# Altium schematic symbol library Integrated circuits.SchLib: 329 symbols (part 3 of 5)
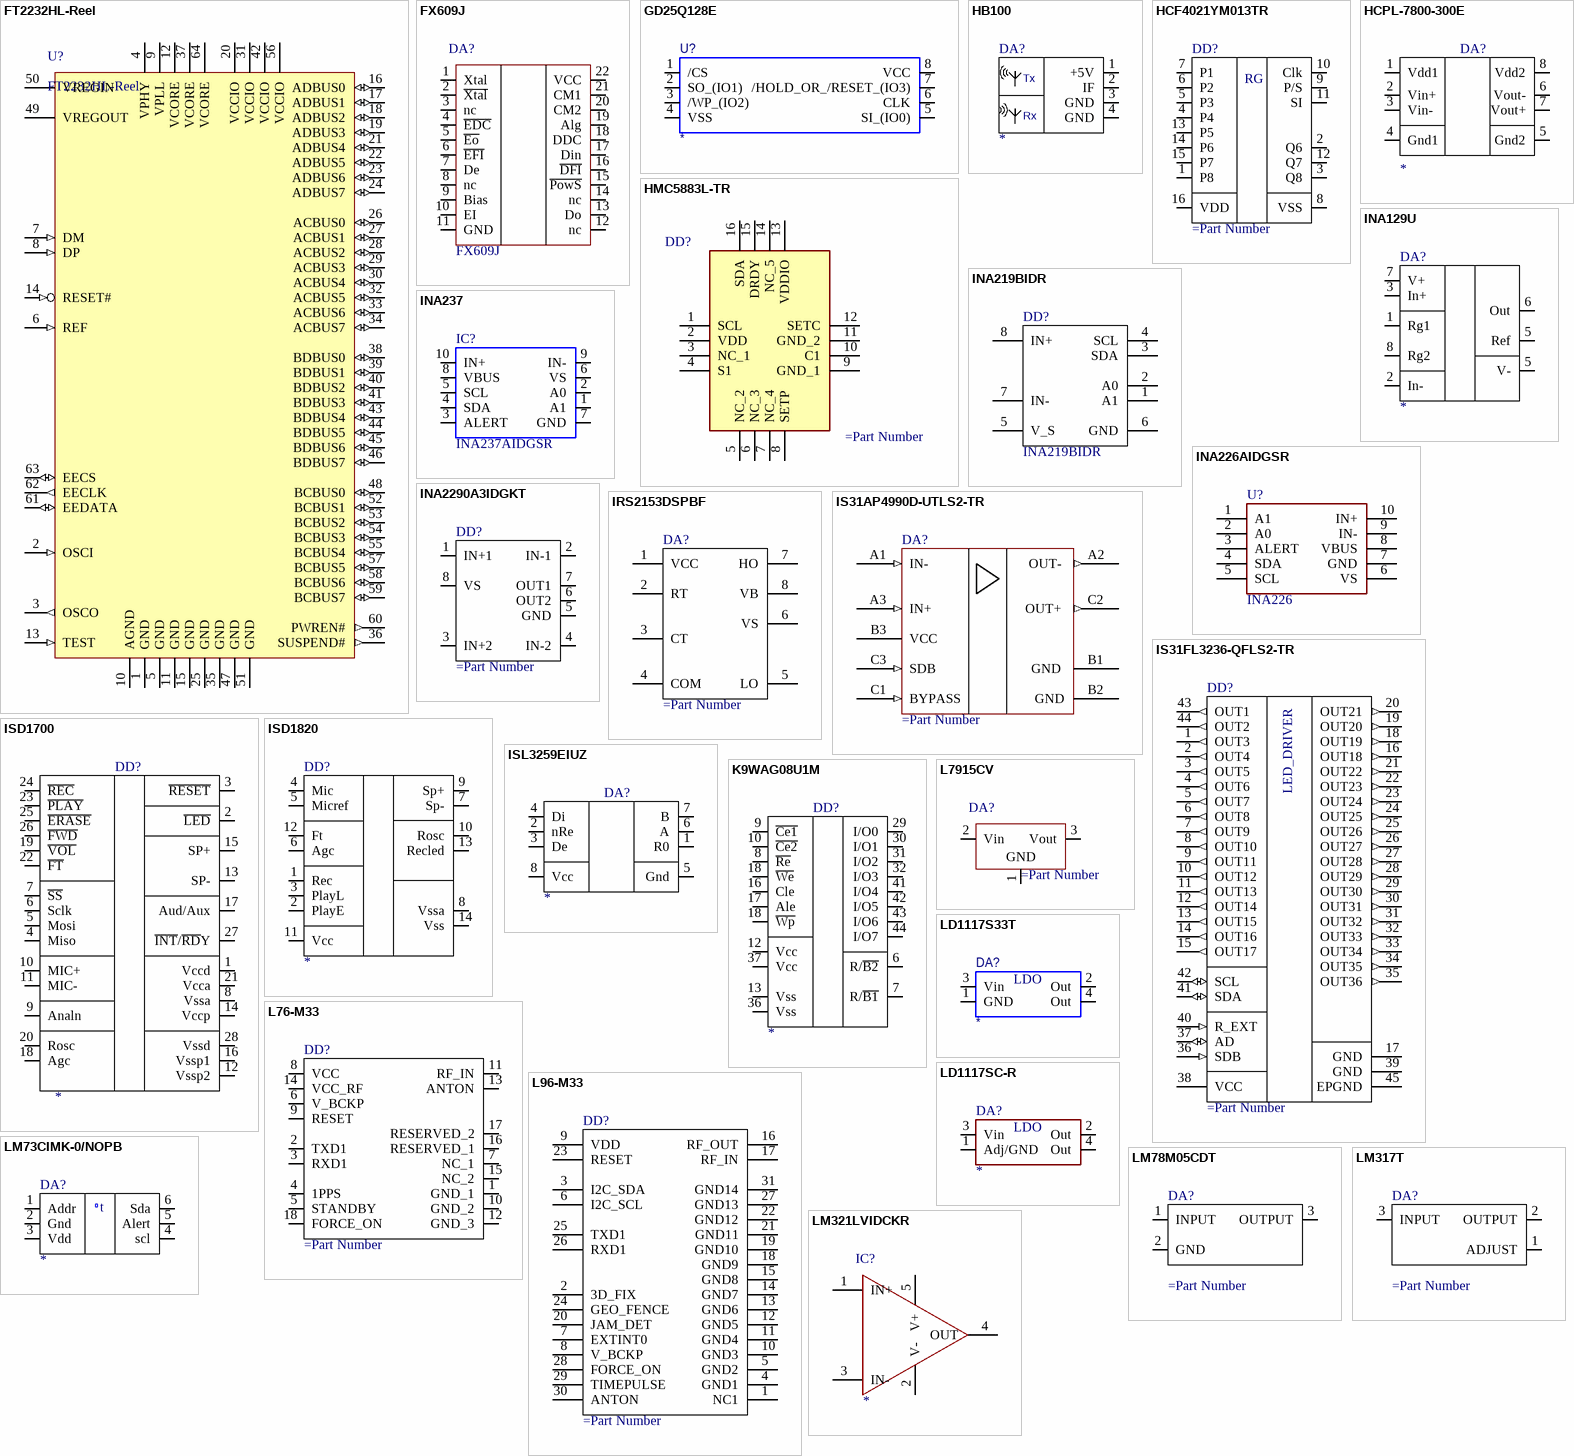
[diagram p27: symbols FT2232HL-Reel to LM321LVIDCKR]

## L76-M33
designator DD?
Integrated Circuit; Manufacturer_Name: Quectel; Manufacturer_Part_Number: L76-M33; Datasheet Link: https://datasheet.datasheetarchive.com/originals/distributors/Datasheets_SAMA/41812d7b1c816a6d8978e3ae1e22c1bf.pdf; Mouser Part Number: 277-L76-M33; Mouser Price/Stock: https://www.mouser.co.uk/ProductDetail/Quectel/L76-M33?qs=GedFDFLaBXE%2FO6lmQFkONA%3D%3D; Arrow Part Number: L76-M33; Arrow Price/Stock: https://www.arrow.com/en/products/l76-m33/quectel-wireless-solutions-co-ltd?region=nac
footprint L76
pins: 1 GND_1, 2 TXD1, 3 RXD1, 4 1PPS, 5 STANDBY, 6 V_BCKP, 7 NC_1, 8 VCC, 9 RESET, 10 GND_2, 11 RF_IN, 12 GND_3, 13 ANTON, 14 VCC_RF, 15 NC_2, 16 RESERVED_1, 17 RESERVED_2, 18 FORCE_ON

## L96-M33
designator DD?
Integrated Circuit; Manufacturer_Name: Quectel; Manufacturer_Part_Number: L96-M33; Datasheet Link: https://datasheet.datasheetarchive.com/originals/distributors/Datasheets_SAMA/c0ed967e056339dc6605afdc999e8ece.pdf; Mouser Part Number: 277-L96-M33; Mouser Price/Stock: https://www.mouser.co.uk/ProductDetail/Quectel/L96-M33?qs=GedFDFLaBXHZlDfU1tecmQ%3D%3D; Arrow Part Number: L96-M33; Arrow Price/Stock: https://www.arrow.com/en/products/l96-m33/quectel-wireless-solutions-co-ltd?region=nac
footprint L96
pins: 1 NC1, 2 3D_FIX, 3 I2C_SDA, 4 GND1, 5 GND2, 6 I2C_SCL, 7 EXTINT0, 8 V_BCKP, 9 VDD, 10 GND3, 11 GND4, 12 GND5, 13 GND6, 14 GND7, 15 GND8, 16 RF_OUT, 17 RF_IN, 18 GND9, 19 GND10, 20 JAM_DET, 21 GND11, 22 GND12, 23 RESET, 24 GEO_FENCE, 25 TXD1, 26 RXD1, 27 GND13, 28 FORCE_ON, 29 TIMEPULSE, 30 ANTON, 31 GND14

## L7915CV
designator DA?
pins: 1 GND, 2 Vin, 3 Vout

## LD1117S33T
designator DA?
pins: 1 GND, 2 Out, 3 Vin, 4 Out
text: LDO

## LD1117SC-R
designator DA?
pins: 1 Adj/GND, 2 Out, 3 Vin, 4 Out
text: LDO

## LM73CIMK-0/NOPB
designator DA?
pins: 1 Addr, 2 Gnd, 3 Vdd, 4 scl, 5 Alert, 6 Sda
text: t

## LM78M05CDT
designator DA?
pins: 1 INPUT, 2 GND, 3 OUTPUT

## LM317T
designator DA?
pins: 1 ADJUST, 2 OUTPUT, 3 INPUT

## LM321LVIDCKR
designator IC?
Integrated Circuit; Manufacturer_Name: Texas Instruments; Manufacturer_Part_Number: TL071HIDBVR; Datasheet Link: https://www.ti.com/lit/ds/symlink/tl071h.pdf?ts=1631522494957; Height: 1.45mm; Mouser Part Number: 595-TL071HIDBVR; Mouser Price/Stock: https://www.mouser.co.uk/ProductDetail/Texas-Instruments/TL071HIDBVR?qs=pBJMDPsKWf2LWnCCHbBi7g%3D%3D; Arrow Part Number: TL071HIDBVR; Arrow Price/Stock: https://www.arrow.com/en/products/tl071hidbvr/texas-instruments?region=europe
footprint SOT95P280X145-5N
pins: 1 IN+, 2 V-, 3 IN-, 4 OUT, 5 V+

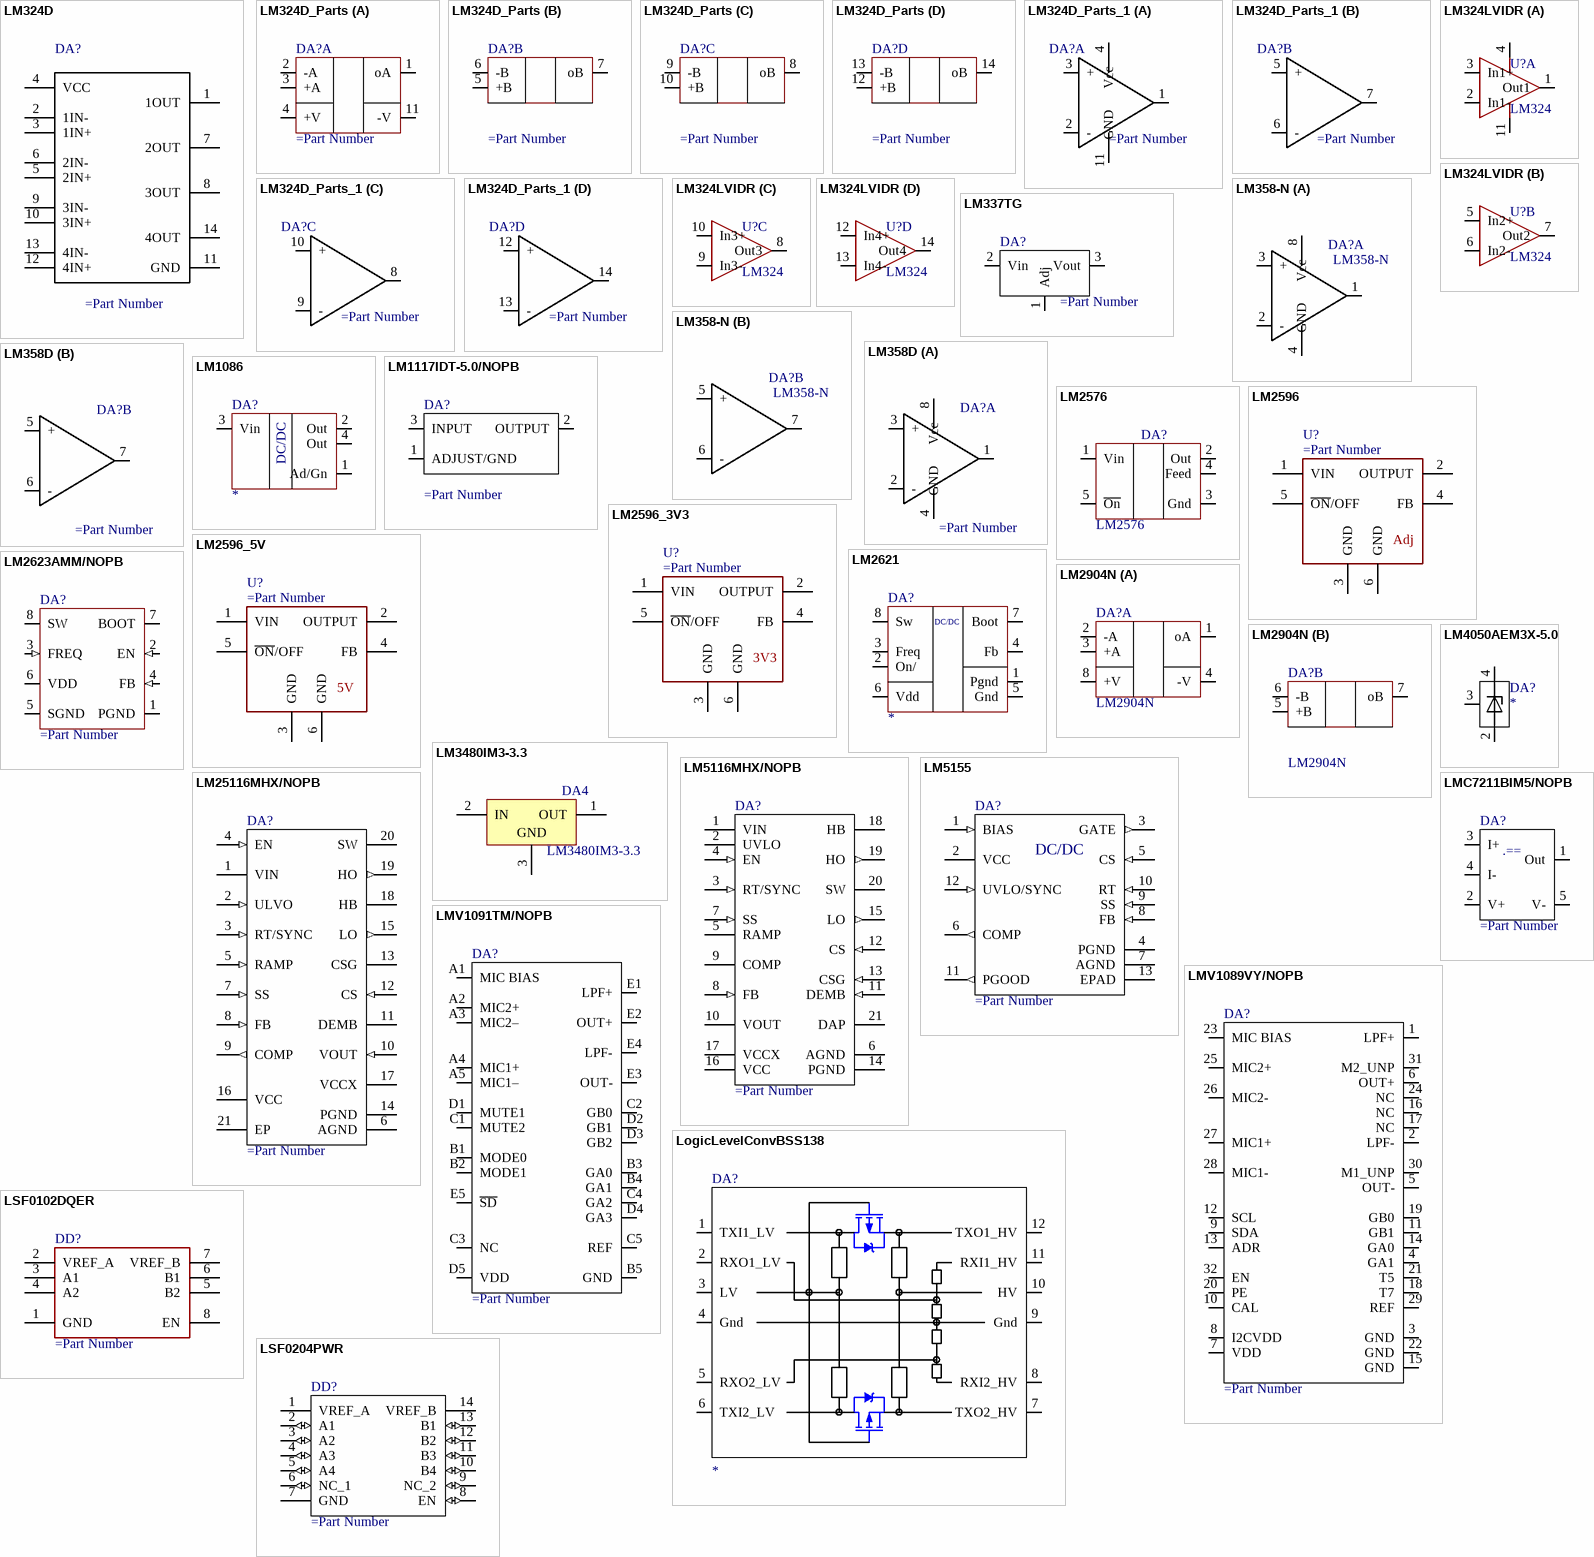
[diagram p13: symbols LM324D to LSF0204PWR]

## LM324D
designator DA?
pins: 1 1OUT, 2 1IN-, 3 1IN+, 4 VCC, 5 2IN+, 6 2IN-, 7 2OUT, 8 3OUT, 9 3IN-, 10 3IN+, 11 GND, 12 4IN+, 13 4IN-, 14 4OUT

## LM324D_Parts
designator DA?
General Purpose Amplifier 4 Circuit - 14-SO
part A pins: 1 oA, 2 -A, 3 +A, 4 +V, 11 -V
part B pins: 5 +B, 6 -B, 7 oB
part C pins: 8 oB, 9 -B, 10 +B
part D pins: 12 +B, 13 -B, 14 oB

## LM324D_Parts_1
designator DA?
General Purpose Amplifier 4 Circuit - 14-SO
part A pins: 1, 2 -, 3 +, 4 Vcc, 11 GND
part B pins: 5 +, 6 -, 7
part C pins: 8, 9 -, 10 +
part D pins: 12 +, 13 -, 14

## LM324LVIDR
designator U?, comment LM324
part A pins: 1 Out1, 2 In1-, 3 In1+, 4 V+, 11 V-
part B pins: 5 In2+, 6 In2-, 7 Out2
part C pins: 8 Out3, 9 In3-, 10 In3+
part D pins: 12 In4+, 13 In4-, 14 Out4

## LM337TG
designator DA?
pins: 1 Adj, 2 Vin, 3 Vout

## LM358-N
designator DA?
Low Power Dual Operational Amplifiers
part A pins: 1, 2 -, 3 +, 4 GND, 8 Vcc
part B pins: 5 +, 6 -, 7

## LM358D
designator DA?
Low Power Dual Operational Amplifiers
part A pins: 1, 2 -, 3 +, 4 GND, 8 Vcc
part B pins: 5 +, 6 -, 7

## LM1086
designator DA?
1.5-A Low Dropout Positive Regulators
pins: 1 Ad/Gn, 2 Out, 3 Vin, 4 Out
text: DC/DC

## LM1117IDT-5.0/NOPB
designator DA?
pins: 1 ADJUST/GND, 2 OUTPUT, 3 INPUT

## LM2576
designator DA?
pins: 1 Vin, 2 Out, 3 Gnd, 4 Feed, 5 ~{On}

## LM2596
designator U?
pins: 1 VIN, 2 OUTPUT, 3 GND, 4 FB, 5 ~{ON}/OFF, 6 GND
text: Adj

## LM2596_3V3
designator U?
pins: 1 VIN, 2 OUTPUT, 3 GND, 4 FB, 5 ~{ON}/OFF, 6 GND
text: 3V3

## LM2596_5V
designator U?
pins: 1 VIN, 2 OUTPUT, 3 GND, 4 FB, 5 ~{ON}/OFF, 6 GND
text: 5V

## LM2621
designator DA?
pins: 1 Pgnd, 2 On/, 3 Freq, 4 Fb, 5 Gnd, 6 Vdd, 7 Boot, 8 Sw
text: DC/DC

## LM2623AMM/NOPB
designator DA?
pins: 1 PGND (power), 2 EN (in), 3 FREQ (in), 4 FB (in), 5 SGND (power), 6 VDD (power), 7 BOOT, 8 SW (oc)

## LM2904N
designator DA?
Low Power Dual Operational Amplifiers
part A pins: 1 oA, 2 -A, 3 +A, 4 -V, 8 +V
part B pins: 5 +B, 6 -B, 7 oB

## LM3480IM3-3.3
designator DA4
100 mA, Quasi Low-Dropout Linear Voltage Regulator, 3-pin SOT-23; Manufacturer: National Semiconductor; PackageTopMarking: L0A*XTT; PowerWise: N; CompType: LDO IC; Published: 4-Dec-2008; DatasheetVersion: Mar-2005; PackageVersion: revB, Mar-2003; PackageReference: MF03A; Publisher: Altium Limited; PackageDescription: Molded SOT-23, .115 x .051 x .037in Body, 3 Lead, .075 in Pitch; PartNumber: LM3480IM3-3.3; RoHS: N; PinCount: 3; ComponentLink1Description: LM3480 Datasheet; ComponentLink1URL: http://www.national.com/ds/LM/LM3480.pdf; ComponentLink2Description: LM3480 Web Page; ComponentLink2URL: http://www.national.com/pf/LM/LM3480.html; ComponentLink3Description: MF03A Package Page; ComponentLink3URL: http://www.national.com/packaging/folders/mf03a.html
footprint MF03A_N (SOT23, 3-Leads, Body 2.9x1.3mm, Pitch 0.95mm, Lead Span 2.4mm, IPC Medium Density)
footprint MF03A_L (SOT23, 3-Leads, Body 2.9x1.3mm, Pitch 0.95mm, Lead Span 2.4mm, IPC High Density)
footprint MF03A_M (SOT23, 3-Leads, Body 2.9x1.3mm, Pitch 0.95mm, Lead Span 2.4mm, IPC Low Density)
pins: 1 OUT (power), 2 IN (power), 3 GND (power)

## LM4050AEM3X-5.0
designator DA?
pins: 2 Gnd, 3 Gnd, 4 Vcc

## LM5116MHX/NOPB
designator DA?
Wide Range Synchronous Buck Controller, 20-pin TSSOP-EP, Pb-Free; PartNumber: LM5116MHX/NOPB; Manufacturer: National Semiconductor; PackageTopMarking: NSUZXYTT*LM5116*MH; PowerWise: Y; CompType: Switcher; DatasheetVersion: Nov-2008; PackageVersion: revC, Jul-2006; PackageReference: MXA20A; PackageDescription: Molded TSSOP, Jedec, 6.5 x 4.4 x 0.9mm Body, 20 Lead, 0.65mm Pitch, Exposed Pad; RoHS: Y; PinCount: 20; High-Reliability: Y; Code_JEDEC: MO-153-ACT; ComponentLink1Description: Manufacturer URL; ComponentLink1URL: http://www.national.com/; ComponentLink2Description: LM5116 Datasheet; ComponentLink2URL: http://www.national.com/ds/LM/LM5116.pdf; ComponentLink3Description: LM5116 Web Page; ComponentLink3URL: http://www.national.com/pf/LM/LM5116.html; ComponentLink4Description: MXA20A Package Page; ComponentLink4URL: http://www.national.com/packaging/folders/mxa20a.html
footprint MXA20A_N (TSOP, 20-Leads, Body 6.5x4.4mm, Pitch 0.65mm, Thermal Pad, IPC Medium Density)
footprint MXA20A_L (TSOP, 20-Leads, Body 6.5x4.4mm, Pitch 0.65mm, Thermal Pad, IPC High Density)
footprint MXA20A_M (TSOP, 20-Leads, Body 6.5x4.4mm, Pitch 0.65mm, Thermal Pad, IPC Low Density)
pins: 1 VIN (power), 2 UVLO, 3 RT/SYNC (in), 4 EN (in), 5 RAMP, 6 AGND (power), 7 SS (in), 8 FB (in), 9 COMP, 10 VOUT, 11 DEMB (in), 12 CS (in), 13 CSG (in), 14 PGND (power), 15 LO (out), 16 VCC (power), 17 VCCX (power), 18 HB, 19 HO (out), 20 SW (power), 21 DAP (power)

## LM5155
designator DA?
pins: 1 BIAS (in), 2 VCC (power), 3 GATE (out), 4 PGND (power), 5 CS (in), 6 COMP (out), 7 AGND (power), 8 FB (in), 9 SS (in), 10 RT (in), 11 PGOOD (out), 12 UVLO/SYNC (in), 13 EPAD
text: DC/DC

## LM25116MHX/NOPB
designator DA?
Wide Range Synchronous Buck Controller, 20-pin TSSOP-EP, Pb-Free; PartNumber: LM25116MHX/NOPB; Manufacturer: National Semiconductor; PackageTopMarking: NSUZXYTT*LM25116*MH; PowerWise: Y; CompType: Switcher; DatasheetVersion: Apr-2007; PackageVersion: revC, Jul-2006; PackageReference: MXA20A; PackageDescription: Molded TSSOP, Jedec, 6.5 x 4.4 x 0.9mm Body, 20 Lead, 0.65mm Pitch, Exposed Pad; RoHS: Y; PinCount: 20; High-Reliability: Y; Code_JEDEC: MO-153-ACT; ComponentLink1Description: Manufacturer URL; ComponentLink1URL: http://www.national.com/; ComponentLink2Description: LM25116 Datasheet; ComponentLink2URL: http://www.national.com/ds/LM/LM25116.pdf; ComponentLink3Description: LM25116 Web Page; ComponentLink3URL: http://www.national.com/pf/LM/LM25116.html; ComponentLink4Description: MXA20A Package Page; ComponentLink4URL: http://www.national.com/packaging/folders/mxa20a.html
footprint MXA20A_N (TSOP, 20-Leads, Body 6.5x4.4mm, Pitch 0.65mm, Thermal Pad, IPC Medium Density)
footprint MXA20A_L (TSOP, 20-Leads, Body 6.5x4.4mm, Pitch 0.65mm, Thermal Pad, IPC High Density)
footprint MXA20A_M (TSOP, 20-Leads, Body 6.5x4.4mm, Pitch 0.65mm, Thermal Pad, IPC Low Density)
pins: 1 VIN (power), 2 ULVO (in), 3 RT/SYNC (in), 4 EN (in), 5 RAMP (in), 6 AGND (power), 7 SS (in), 8 FB (in), 9 COMP (out), 10 VOUT (in), 11 DEMB, 12 CS (in), 13 CSG, 14 PGND (power), 15 LO (out), 16 VCC (power), 17 VCCX (power), 18 HB, 19 HO (out), 20 SW (power), 21 EP (power)

## LMC7211BIM5/NOPB
designator DA?
pins: 1 Out, 2 V+, 3 I+, 4 I-, 5 V-
text: .==

## LMV1089VY/NOPB
designator DA?
pins: 1 LPF+, 2 LPF-, 3 GND, 4 GA1, 5 OUT-, 6 OUT+, 7 VDD, 8 I2CVDD, 9 SDA, 10 CAL, 11 GB1, 12 SCL, 13 ADR, 14 GA0, 15 GND, 16 NC, 17 NC, 18 T7, 19 GB0, 20 PE, 21 T5, 22 GND, 23 MIC BIAS, 24 NC, 25 MIC2+, 26 MIC2-, 27 MIC1+, 28 MIC1-, 29 REF, 30 M1_UNP, 31 M2_UNP, 32 EN

## LMV1091TM/NOPB
designator DA?
pins: A1 MIC BIAS, A2 MIC2+, A3 MIC2–, A4 MIC1+, A5 MIC1–, B1 MODE0, B2 MODE1, B3 GA0, B4 GA1, B5 GND, C1 MUTE2, C2 GB0, C3 NC, C4 GA2, C5 REF, D1 MUTE1, D2 GB1, D3 GB2, D4 GA3, D5 VDD, E1 LPF+, E2 OUT+, E3 OUT-, E4 LPF-, E5 ~{SD}

## LogicLevelConvBSS138
designator DA?
pins: 1 TXI1_LV, 2 RXO1_LV, 3 LV, 4 Gnd, 5 RXO2_LV, 6 TXI2_LV, 7 TXO2_HV, 8 RXI2_HV, 9 Gnd, 10 HV, 11 RXI1_HV, 12 TXO1_HV

## LSF0102DQER
designator DD?
Manufacturer_Name: Texas Instruments; Manufacturer_Part_Number: LSF0204PWR; Datasheet Link: http://www.ti.com/lit/gpn/lsf0204; Height: 1.2mm; Mouser Part Number: 595-LSF0204PWR; Mouser Price/Stock: https://www.mouser.co.uk/ProductDetail/Texas-Instruments/LSF0204PWR?qs=m%2F7bTylgptck0MkFZrWcVg%3D%3D; Arrow Part Number: LSF0204PWR; Arrow Price/Stock: https://www.arrow.com/en/products/lsf0204pwr/texas-instruments?region=nac
footprint SOP65P640X120-14N
pins: 1 GND (power), 2 VREF_A (power), 3 A1, 4 A2, 5 B2, 6 B1, 7 VREF_B (power), 8 EN

## LSF0204PWR
designator DD?
Manufacturer_Name: Texas Instruments; Manufacturer_Part_Number: LSF0204PWR; Datasheet Link: http://www.ti.com/lit/gpn/lsf0204; Height: 1.2mm; Mouser Part Number: 595-LSF0204PWR; Mouser Price/Stock: https://www.mouser.co.uk/ProductDetail/Texas-Instruments/LSF0204PWR?qs=m%2F7bTylgptck0MkFZrWcVg%3D%3D; Arrow Part Number: LSF0204PWR; Arrow Price/Stock: https://www.arrow.com/en/products/lsf0204pwr/texas-instruments?region=nac
footprint SOP65P640X120-14N
pins: 1 VREF_A (power), 2 A1 (io), 3 A2 (io), 4 A3 (io), 5 A4 (io), 6 NC_1 (io), 7 GND (power), 8 EN (io), 9 NC_2 (io), 10 B4 (io), 11 B3 (io), 12 B2 (io), 13 B1 (io), 14 VREF_B (power)

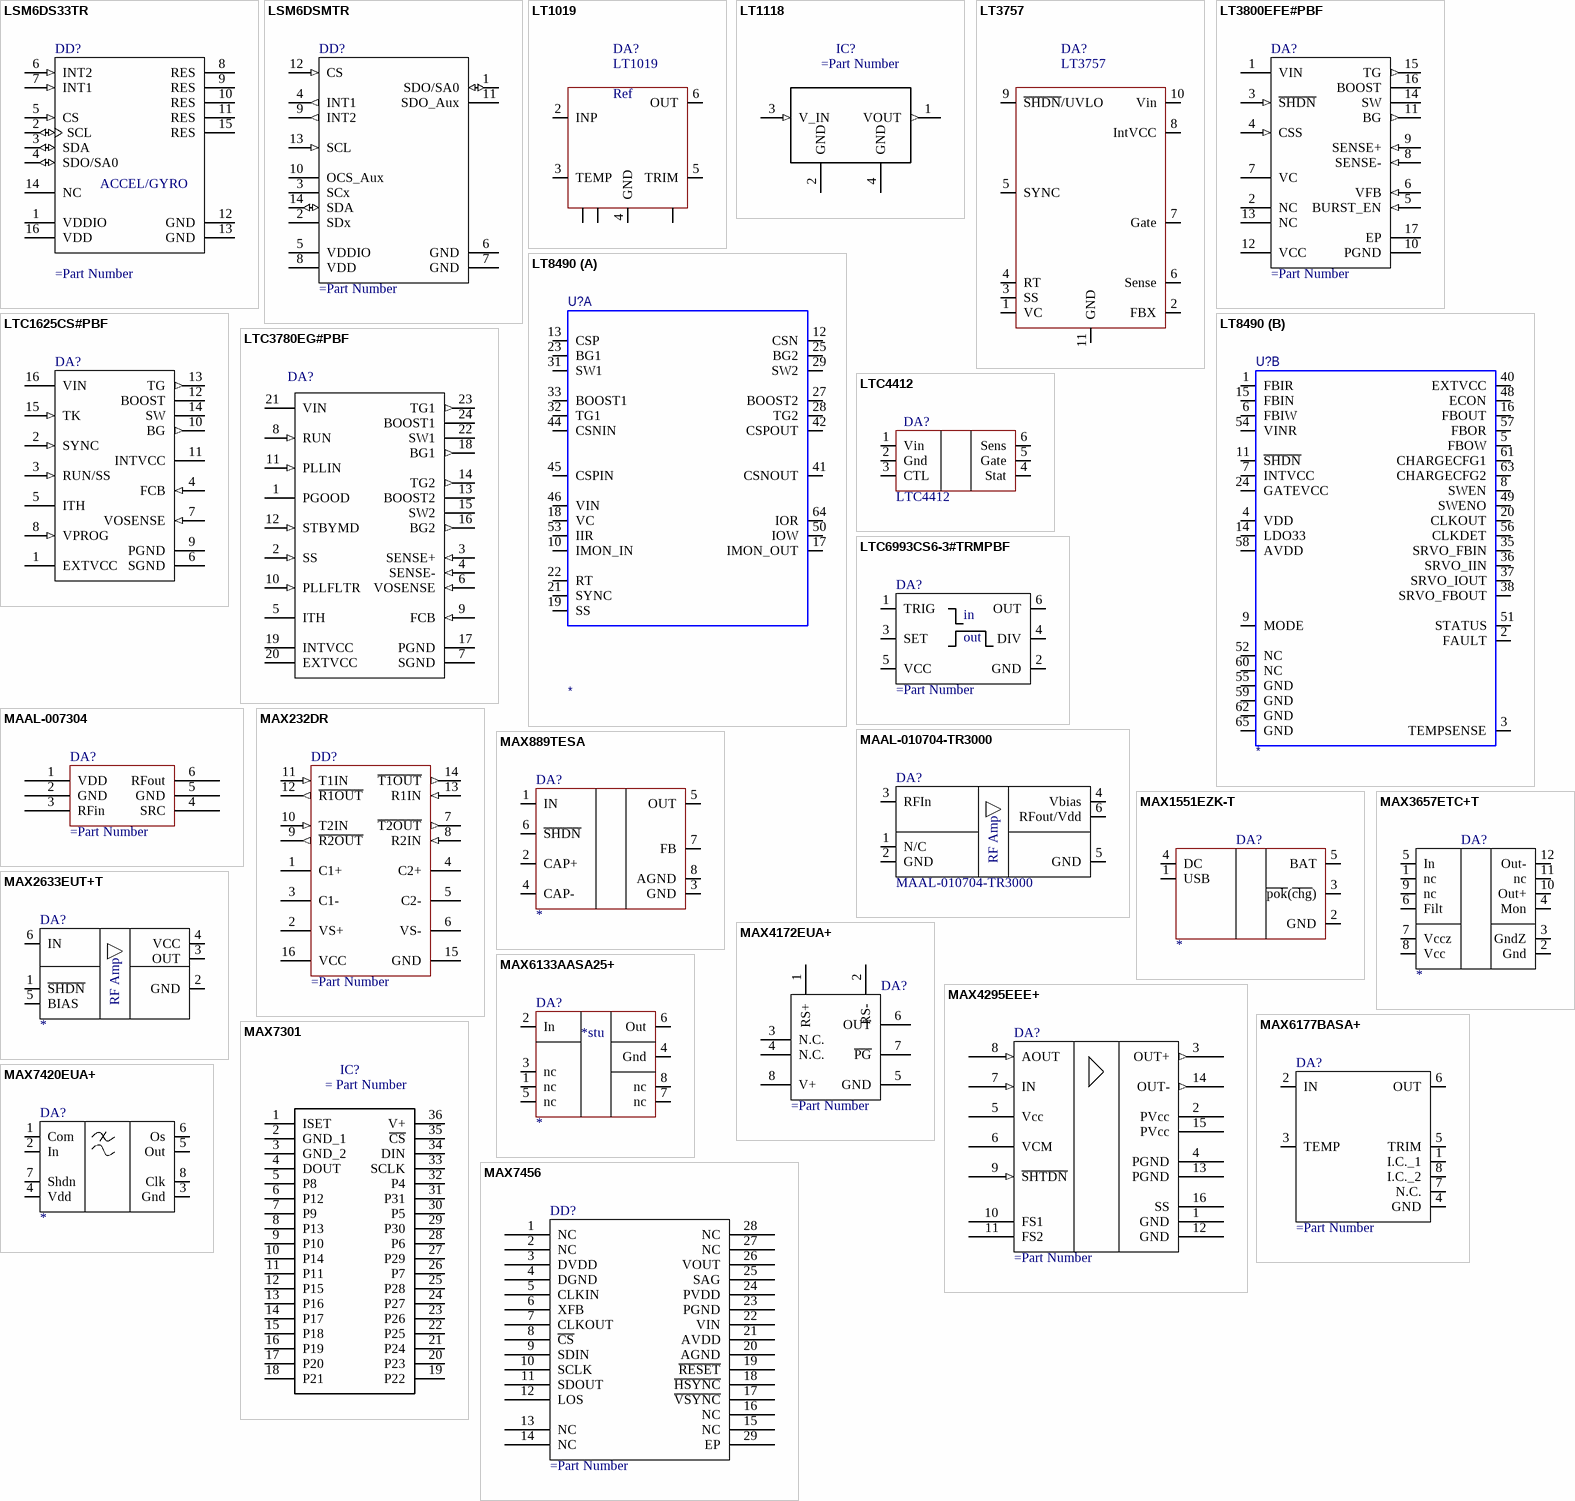
[diagram p14: symbols LSM6DS33TR to MAX7456]

## LSM6DS33TR
designator DD?
pins: 1 VDDIO (power), 2 SCL (io), 3 SDA (io), 4 SDO/SA0 (io), 5 CS (in), 6 INT2 (in), 7 INT1 (in), 8 RES (power), 9 RES (power), 10 RES (power), 11 RES (power), 12 GND (power), 13 GND (power), 14 NC, 15 RES (power), 16 VDD (power)
text: ACCEL/GYRO

## LSM6DSMTR
designator DD?
IMU ACCEL/GYRO I2C/SPI 14LGA; Manufacturer_Part_Number: LSM6DSMTR; SourceLibrary: Updates_to_database_2020-11-03; Built_By: EMA_Cory; Vendor: STMicroelectronics; Datasheet: https://www.st.com/content/ccc/resource/technical/document/datasheet/76/27/cf/88/c5/03/42/6b/DM00218116.pdf/files/DM00218116.pdf/jcr:content/translations/en.DM00218116.pdf; Copyright: Copyright (C) 2018 Accelerated Designs. All rights reserved; RefDes: RefDes; Type: DEV
footprint LGA-14L_2P5X3X0P83_STM
pins: 1 SDO/SA0 (io), 2 SDx, 3 SCx, 4 INT1 (out), 5 VDDIO (power), 6 GND, 7 GND, 8 VDD (power), 9 INT2 (out), 10 OCS_Aux, 11 SDO_Aux, 12 CS (in), 13 SCL (in), 14 SDA (io)

## LT1019
designator DA?
pins: 1 DNC, 2 INP, 3 TEMP, 4 GND, 5 TRIM, 6 OUT, 7 DNC, 8 DNC
text: Ref

## LT1118
designator IC?
Integrated Circuit; Manufacturer_Name: Microchip; Manufacturer_Part_Number: MCP1824T-3302E/OT; Datasheet Link: http://docs-emea.rs-online.com/webdocs/0d10/0900766b80d10fb9.pdf; Height: 1.45mm; Arrow Part Number: MCP1824T-3302E/OT; Arrow Price/Stock: https://www.arrow.com/en/products/mcp1824t-3302eot/microchip-technology; Mouser Part Number: 579-MCP1824T-3302EOT; Mouser Price/Stock: https://www.mouser.co.uk/ProductDetail/Microchip-Technology/MCP1824T-3302E-OT?qs=gsqZ4L1luKpf30CVQFzEaA%3D%3D
footprint SOT95P270X145-5N
pins: 1 VOUT (out), 2 GND (power), 3 V_IN (in), 4 GND

## LT3757
designator DA?
pins: 1 VC, 2 FBX, 3 SS, 4 RT, 5 SYNC, 6 Sense, 7 Gate, 8 IntVCC, 9 ~{SHDN}/UVLO, 10 Vin, 11 GND

## LT3800EFE#PBF
designator DA?
High-Voltage Synchronous Current Mode Step-Down Controller MAX, 16-pin SOP (FE-16-EPV-BC), -40 to 125 degC, Pb-Free; Manufacturer: Linear Technology; PartNumber: LT3800EFE#PBF; Number of Outputs: 1; DatasheetVersion: Rev. C; PackageVersion: Rev. J, 11/2012; PackageReference: FE-16; PackageDescription: 16-Pin Plastic TSSOP, Body 5 x 4.4 mm, Pitch 0.65 mm; Supplier 1: Digi-Key; Supplier Part Number 1: LT3800EFE#PBF-ND; Supplier 2: Farnell; Supplier Part Number 2: 1273821; Supplier 3: Newark; Supplier Part Number 3: 57M8609; RoHS: TRUE; Mounting Technology: Surface Mount; ComponentLink1Description: Manufacturer URL; ComponentLink1URL: http://www.linear.com/; ComponentLink2Description: Datasheet; ComponentLink2URL: http://cds.linear.com/docs/en/datasheet/3800fc.pdf; ComponentLink3Description: Package Specification; ComponentLink3URL: http://cds.linear.com/docs/en/packaging/05081663__J_FE16(BC).pdf
footprint LT-FE-16-EPV-BC_N (SOP, 16-Leads, Body 5.1x4.5mm, Pitch 0.65mm, Thermal Pad 3.58x2.94mm, IPC Medium Density)
footprint LT-FE-16-EPV-BC_L (SOP, 16-Leads, Body 5.1x4.5mm, Pitch 0.65mm, Thermal Pad 3.58x2.94mm, IPC High Density)
footprint LT-FE-16-EPV-BC_M (SOP, 16-Leads, Body 5.1x4.5mm, Pitch 0.65mm, Thermal Pad 3.58x2.94mm, IPC Low Density)
pins: 1 VIN (power) "Converter Input Supply.", 2 NC "No Connection.", 3 ~{SHDN} (in) "Precision Shutdown Pin. Enable threshold is 1.35V (rising) with 120mV of input hysteresis. When in shutdown mode, all internal IC functions are disabled. The precision threshold allows use of the S\H\D\N\ pin to incorporate (See Datasheet)", 4 CSS (in) "Soft-Start AC Coupling Capacitor Input. Connect capacitor (CSS) in series with a 200k resistor from pin to converter output (VOUT). Controls converter start-up output voltage slew rate (deltaVOUT/deltat). Slew rate (See Datasheet)", 5 BURST_EN (in) "Burst Mode Operation Enable Pin. This pin also controls reverse-inhibit mode of operation. When the pin voltage is below 0.5V, Burst Mode operation and reverse-current inhibit functions are enabled. When the pin voltage is (See Datasheet)", 6 VFB (in) "Error Amplifier Inverting Input. The noninverting input of the error amplifier is connected to an internal 1.231V reference. Desired converter output voltage (VOUT) is programmed by connecting a resistive divider from the (See Datasheet)", 7 VC "Error Amplifier Output. The voltage on the VC pin corresponds to the maximum (peak) switch current per oscillator cycle. The error amplifier is typically configured as an integrator by connecting an RC network from this pin (See Datasheet)", 8 SENSE- (in) "Negative Input for Current Sense Amplifier. Sensed inductor current limit set at +/-150mV across SENSE inputs.", 9 SENSE+ (in) "Positive Input for Current Sense Amplifier. Sensed inductor current limit set at +/-150mV across SENSE inputs.", 10 PGND (power) "High Current Ground Reference for Synchronous Switch. Current path from pin to negative terminal of VCC decoupling capacitor must not corrupt SGND.", 11 BG (out) "Synchronous Switch Gate Drive Output.", 12 VCC (power) "Internal Regulator Output. Most IC functions are powered from this pin. Driving this pin from an external source reduces VIN pin current to 20uA. This pin is decoupled with a low ESR 1uF capacitor to PGND. In shutdown mode, (See Datasheet)", 13 NC "No Connection.", 14 SW "Reference for VBOOST Supply and High Current Return for Bootstrapped Switch.", 15 TG (out) "Bootstrapped Switch Gate Drive Output.", 16 BOOST "Bootstrapped Supply - Maximum Operating Voltage (Ground Referred) to 75V. This pin is decoupled with a low ESR 1uF capacitor to pin SW. The voltage on the decoupling capacitor is refreshed through a rectifi er from either (See Datasheet)", 17 EP (power) "Low Noise Ground Reference. SGND connection is made through the exposed lead frame on back of TSSOP package which must be soldered to the PCB ground."

## LT8490
designator U?
part A pins: 10 IMON_IN, 12 CSN, 13 CSP, 17 IMON_OUT, 18 VC, 19 SS, 21 SYNC, 22 RT, 23 BG1, 25 BG2, 27 BOOST2, 28 TG2, 29 SW2, 31 SW1, 32 TG1, 33 BOOST1, 41 CSNOUT, 42 CSPOUT, 44 CSNIN, 45 CSPIN, 46 VIN, 50 IOW, 53 IIR, 64 IOR
part B pins: 1 FBIR, 2 FAULT, 3 TEMPSENSE, 4 VDD, 5 FBOW, 6 FBIW, 7 INTVCC, 8 SWEN, 9 MODE, 11 ~{SHDN}, 14 LDO33, 15 FBIN, 16 FBOUT, 20 CLKOUT, 24 GATEVCC, 35 SRVO_FBIN, 36 SRVO_IIN, 37 SRVO_IOUT, 38 SRVO_FBOUT, 40 EXTVCC, 48 ECON, 49 SWENO, 51 STATUS, 52 NC, 54 VINR, 55 GND, 56 CLKDET, 57 FBOR, 58 AVDD, 59 GND, 60 NC, 61 CHARGECFG1, 62 GND, 63 CHARGECFG2, 65 GND

## LTC1625CS#PBF
designator DA?
No Rsense Current Mode Synchronous Step-Down Switching Regulator, 16-pin SOP (S-16), 0 to 70 degC, Pb-Free; Manufacturer: Linear Technology; PartNumber: LTC1625CS#PBF; Number of Outputs: 1; PackageVersion: Rev. G, 05/2012; PackageReference: S-16; PackageDescription: 16-Pin Plastic Small Outline, Body 9.9 x 3.9 mm, Pitch 1.27 mm; Supplier 1: Digi-Key; Supplier Part Number 1: LTC1625CS#PBF-ND; Supplier 2: Farnell; Supplier Part Number 2: 1273890; Supplier 3: Newark; Supplier Part Number 3: 56M2698; RoHS: TRUE; Mounting Technology: Surface Mount; ComponentLink1Description: Manufacturer URL; ComponentLink1URL: http://www.linear.com/; ComponentLink2Description: Datasheet; ComponentLink2URL: http://cds.linear.com/docs/en/datasheet/1625f.pdf; ComponentLink3Description: Package Specification; ComponentLink3URL: http://cds.linear.com/docs/en/packaging/S16%2005-08-1610%20Rev%20G.pdf
footprint LT-S-16_N (SOP, 16-Leads, Body 10x4mm, Pitch 1.27mm, IPC Medium Density)
footprint LT-S-16_L (SOP, 16-Leads, Body 10x4mm, Pitch 1.27mm, IPC High Density)
footprint LT-S-16_M (SOP, 16-Leads, Body 10x4mm, Pitch 1.27mm, IPC Low Density)
pins: 1 EXTVCC (power) "INTVCC Switch Input. When the EXTVCC voltage is above 4.7V, the switch closes and supplies INTVCC power from EXTVCC. Do not exceed 7V at this pin.", 2 SYNC (in) "Synchronization Input for Internal Oscillator. The oscillator will nominally run at 150kHz when open, 225kHz when tied above 1.2V, and will lock over a 1.5:1 clock frequency range.", 3 RUN/SS (in) "Run Control and Soft Start Input. A capacitor to ground at this pin sets the ramp time to full current output (approximately 1s/mF). Forcing this pin below 1.4V shuts down the device.", 4 FCB (in) "Forced Continuous Input. Tie this pin to ground to force synchronous operation at low load, to a resistive divider from the secondary output when using a secondary winding, or to INTVCC to enable Burst Mode operation at low (See Datasheet)", 5 ITH "Error Amplifier Compensation Point. The current comparator threshold increases with this control voltage. Nominal voltage range for this pin is 0V to 2.4V.", 6 SGND (power) "Signal Ground. Connect to the (-) terminal of COUT.", 7 VOSENSE (in) "Output Voltage Sense. Feedback input from the remotely sensed output voltage or from an external resistive divider across the output.", 8 VPROG (in) "Output Voltage Programming. When VOSENSE is connected to the output, VPROG < 0.8V selects a 3.3V output and VPROG > 3.5V selects a 5V output.", 9 PGND (power) "Driver Power Ground. Connects to the source of the bottom N-channel MOSFET, the (-) terminal of CVCC and the (-) terminal of CIN.", 10 BG (out) "Bottom Gate Drive. Drives the gate of the bottom N-channel MOSFET between ground and INTVCC.", 11 INTVCC (power) "Internal 5.2V Regulator Output. The driver and control circuits are powered from this voltage. Decouple this pin to power ground with a minimum of 4.7mF tantalum capacitance.", 12 BOOST "Topside Floating Driver Supply. The (+) terminal of the bootstrap capacitor connects here. This pin swings from a diode drop below INTVCC to VIN + INTVCC.", 13 TG (out) "Top Gate Drive. Drives the top N-channel MOSFET with a voltage swing equal to INTVCC minus a diode drop, superimposed on the switch node voltage.", 14 SW "Switch Node. The (-) terminal of the bootstrap capacitor connects here. This pin swings from a diode drop below ground up to VIN.", 15 TK (in) "Top MOSFET Kelvin Sense. MOSFET VDS sensing requires this pin to be routed to the drain of the top MOSFET separately from VIN.", 16 VIN (power) "Main Supply Input. Decouple this pin to ground with an RC filter (4.7ohm, 0.1uF) for applications above 3A."

## LTC3780EG#PBF
designator DA?
Buck-boost Controller, Constant Frequency, Current Mode Control with Power Good Output, 24-pin SOP (G-24), -40 to 85 degC, Pb-Free; Manufacturer: Linear Technology; PartNumber: LTC3780EG#PBF; Frequency Sync Range: 200kHz - 400kHz; Number of Outputs: 1; DatasheetVersion: Rev. F; PackageVersion: Jun-10; PackageReference: G-24; PackageDescription: 24-Pin Plastic SSOP, Body 8.2 x 5.3 mm, Pitch 0.65 mm; Supplier 1: Digi-Key; Supplier Part Number 1: LTC3780EG#PBF-ND; Supplier 2: Farnell; Supplier Part Number 2: 1273545; Supplier 3: Newark; Supplier Part Number 3: 56M8395; RoHS: TRUE; Mounting Technology: Surface Mount; ComponentLink1Description: Manufacturer URL; ComponentLink1URL: http://www.linear.com/; ComponentLink2Description: Datasheet; ComponentLink2URL: http://cds.linear.com/docs/en/datasheet/3780ff.pdf; ComponentLink3Description: Package Specification; ComponentLink3URL: http://cds.linear.com/docs/en/packaging/SSOP_24_05-08-1640.pdf
footprint LT-G-24_N (SOP, 24-Leads, Body 8.5x5.6mm, Pitch 0.65mm, IPC Medium Density)
footprint LT-G-24_L (SOP, 24-Leads, Body 8.5x5.6mm, Pitch 0.65mm, IPC High Density)
footprint LT-G-24_M (SOP, 24-Leads, Body 8.5x5.6mm, Pitch 0.65mm, IPC Low Density)
pins: 1 PGOOD (oc) "Open-Drain Logic Output. PGOOD is pulled to ground when the output voltage is not within +/-7.5% of the regulation point.", 2 SS (in) "Soft-start reduces the input power sources’ surge currents by gradually increasing the controller’s current limit. A minimum value of 6.8nF is recommended on this pin.", 3 SENSE+ (in) "The (+) Input to the Current Sense and Reverse Current Detect Comparators. The ITH pin voltage and built-in offsets between SENSE- and SENSE+ pins, in conjunction with RSENSE, set the current trip threshold.", 4 SENSE- (in) "The (-) Input to the Current Sense and Reverse Current Detect Comparators.", 5 ITH "Current Control Threshold and Error Amplifier Compensation Point. The current comparator threshold increases with this control voltage. The voltage ranges from 0V to 2.4V.", 6 VOSENSE (in) "Error Amplifier Feedback Input. This pin connects the error amplifier input to an external resistor divider from VOUT.", 7 SGND (power) "Signal Ground. All small-signal components and compensation components should connect to this ground, which should be connected to PGND at a single point. The QFN exposed pad must be soldered to PCB ground for electrical (See Datasheet)", 8 RUN (in) "Run Control Input. Forcing the RUN pin below 1.5V causes the IC to shut down the switching regulator circuitry. There is a 100k resistor between the RUN pin and SGND in the IC. Do not apply >6V to this pin.", 9 FCB (in) "Forced Continuous Control Input. The voltage applied to this pin sets the operating mode of the controller. When the applied voltage is less than 0.8V, the forced continuous current mode is active. When this pin is allowed (See Datasheet)", 10 PLLFLTR (in) "The phase-locked loop’s lowpass filter is tied to this pin. Alternatively, this pin can be driven with an AC or DC voltage source to vary the frequency of the internal oscillator.", 11 PLLIN (in) "External Synchronization Input to Phase Detector. This pin is internally terminated to SGND with 50kohm. The phase-locked loop will force the rising bottom gate signal of the controller to be synchronized with the rising (See Datasheet)", 12 STBYMD (in) "LDO Control Pin. Determines whether the internal LDO remains active when the controller is shut down. See Operation section for details. If the STBYMD pin is pulled to ground, the SS pin is internally pulled to ground, (See Datasheet)", 13 BOOST2 "Boosted Floating Driver Supply. The (+) terminal of the bootstrap capacitor CA and CB (Figure 11) connects here. The BOOST2 pin swings from a diode voltage below INTVCC up to VIN+ INTVCC. The BOOST1 pin swings from a diode (See Datasheet)", 14 TG2 (out) "Top Gate Drive. Drives the top N-channel MOSFET with a voltage swing equal to INTVCC superimposed on the switch node voltage SW", 15 SW2 "Switch Node. The (-) terminal of the bootstrap capacitor CA and CB (Figure 11) connects here. The SW2 pin swings from a Schottky diode (external) voltage drop below ground up to VIN. The SW1 pin swings from a Schottky diode (See Datasheet)", 16 BG2 (out) "Bottom Gate Drive. Drives the gate of the bottom N-channel MOSFET between ground and INTVCC.", 17 PGND (power) "Power Ground. Connect this pin closely to the source of the bottom N-channel MOSFET, the (-) terminal of CVCC and the (-) terminal of CIN (Figure 11).", 18 BG1 (out) "Bottom Gate Drive. Drives the gate of the bottom N-channel MOSFET between ground and INTVCC.", 19 INTVCC (power) "Internal 6V Regulator Output. The driver and control circuits are powered from this voltage. Bypass this pin to ground with a minimum of 4.7uF low ESR tantalum or ceramic capacitor", 20 EXTVCC (power) "External VCC Input. When EXTVCC exceeds 5.7V, an internal switch connects this pin to INTVCC and shuts down the internal regulator so that the controller and gate drive power is drawn from EXTVCC. Do not exceed 7V at this (See Datasheet)", 21 VIN (power) "Main Input Supply. Bypass this pin to SGND with an RC filter (1ohm, 0.1uF).", 22 SW1 "Switch Node. The (-) terminal of the bootstrap capacitor CA and CB (Figure 11) connects here. The SW2 pin swings from a Schottky diode (external) voltage drop below ground up to VIN. The SW1 pin swings from a Schottky diode (See Datasheet)", 23 TG1 (out) "Top Gate Drive. Drives the top N-channel MOSFET with a voltage swing equal to INTVCC superimposed on the switch node voltage SW", 24 BOOST1 "Boosted Floating Driver Supply. The (+) terminal of the bootstrap capacitor CA and CB (Figure 11) connects here. The BOOST2 pin swings from a diode voltage below INTVCC up to VIN+ INTVCC. The BOOST1 pin swings from a diode (See Datasheet)"

## LTC4412
designator DA?
pins: 1 Vin, 2 Gnd, 3 CTL, 4 Stat, 5 Gate, 6 Sens

## LTC6993CS6-3#TRMPBF
designator DA?
pins: 1 TRIG, 2 GND, 3 SET, 4 DIV, 5 VCC, 6 OUT
text: in; out

## MAAL-007304
designator DA?
pins: 1 VDD, 2 GND, 3 RFin, 4 SRC, 5 GND, 6 RFout

## MAAL-010704-TR3000
designator DA?
RF Amplifier IC General Purpose 100MHz ~ 3.5GHz SC-70-6 (SOT-363); Part Number: MAAL-010704-TR3000; HelpURL: https://www.digikey.com/product-detail/en/m-a-com-technology-solutions/MAAL-010704-TR3000/1465-1261-1-ND/4429958; Price$: 2.94000
footprint SOT363
footprint SOT-363
pins: 1 N/C, 2 GND, 3 RFIn, 4 Vbias, 5 GND, 6 RFout/Vdd
text: RF Amp

## MAX232DR
designator DD?
Dual EIA-232 Driver / Receiver, 0 to 70 degC, 16-Pin SOIC (D), Green (RoHS & no Sb/Br); SubFamily: RS-232; Drivers Per Package: 2; Supply Voltage(s)(V): 5; ESD HBM(kV): +/-2; ICC(Max)(mA): 10; Single Supply: TRUE; DatasheetVersion: SLLS047L; PackageVersion: revM, Jun-2011; PackageReference: D16; PackageDescription: 16-Pin Plastic Small Outline Integrated Circuit, 9.9 x 3.9 mm, Pitch 1.27 mm Pitch; Receivers Per Package: 2; RS-232: TRUE; ComponentLink1Description: Manufacturer URL; ComponentLink1URL: www.ti.com; ComponentLink2Description: Datasheet; ComponentLink2URL: http://www.ti.com/general/docs/lit/getliterature.tsp?genericPartNumber=MAX232&fileType=pdf; ComponentLink3Description: Package Specification; ComponentLink3URL: http://www.ti.com/litv/pdf/mpds178g
footprint TI-D16_N (SOIC, 16-Leads, Body 9.9x3.9mm, Pitch 1.27mm, IPC Medium Density)
footprint TI-D16_L (SOIC, 16-Leads, Body 9.9x3.9mm, Pitch 1.27mm, IPC High Density)
footprint TI-D16_M (SOIC, 16-Leads, Body 9.9x3.9mm, Pitch 1.27mm, IPC Low Density)
pins: 1 C1+, 2 VS+ (power), 3 C1-, 4 C2+, 5 C2-, 6 VS- (power), 7 ~{T2OUT} (out), 8 R2IN (in), 9 ~{R2OUT} (out), 10 T2IN (in), 11 T1IN (in), 12 ~{R1OUT} (out), 13 R1IN (in), 14 ~{T1OUT} (out), 15 GND (power), 16 VCC (power)

## MAX889TESA
designator DA?
pins: 1 IN, 2 CAP+, 3 GND, 4 CAP-, 5 OUT, 6 ~{SHDN}, 7 FB, 8 AGND

## MAX1551EZK-T
designator DA?
pins: 1 USB, 2 GND, 3 ~{pok}(~{chg}), 4 DC, 5 BAT

## MAX2633EUT+T
designator DA?
pins: 1 ~{SHDN}, 2 GND, 3 OUT, 4 VCC, 5 BIAS, 6 IN
text: RF Amp

## MAX3657ETC+T
designator DA?
pins: 1 nc, 2 Gnd, 3 GndZ, 4 Mon, 5 In, 6 Filt, 7 Vccz, 8 Vcc, 9 nc, 10 Out+, 11 nc, 12 Out-

## MAX4172EUA+
designator DA?
pins: 1 RS+, 2 RS-, 3 N.C., 4 N.C., 5 GND, 6 OUT, 7 ~{PG}, 8 V+

## MAX4295EEE+
designator DA?
pins: 1 GND, 2 PVcc (power), 3 OUT+ (out), 4 PGND, 5 Vcc, 6 VCM, 7 IN (in), 8 AOUT (in), 9 ~{SHTDN} (in), 10 FS1, 11 FS2, 12 GND, 13 PGND, 14 OUT- (out), 15 PVcc (power), 16 SS

## MAX6133AASA25+
designator DA?
pins: 1 nc, 2 In, 3 nc, 4 Gnd, 5 nc, 6 Out, 7 nc, 8 nc
text: *stu

## MAX6177BASA+
designator DA?
Integrated Circuit; Manufacturer_Name: Maxim Integrated; Manufacturer_Part_Number: MAX6177BASA+; Datasheet Link: https://datasheets.maximintegrated.com/en/ds/MAX6173-MAX6177.pdf; Height: 1.75mm; Mouser Part Number: 700-MAX6177BASA; Mouser Price/Stock: https://www.mouser.co.uk/ProductDetail/Maxim-Integrated/MAX6177BASA%2b?qs=GxOUx7aO6nxysZ1A2ycOxA%3D%3D
footprint SOIC127P600X175-8N
pins: 1 I.C._1, 2 IN, 3 TEMP, 4 GND, 5 TRIM, 6 OUT, 7 N.C., 8 I.C._2

## MAX7301
designator IC?
Integrated Circuit; Manufacturer_Name: Maxim Integrated; Manufacturer_Part_Number: MAX7301AAX+; Datasheet Link: http://datasheets.maximintegrated.com/en/ds/MAX7301.pdf; Height: 2.64mm; Arrow Part Number: MAX7301AAX+; Mouser Part Number: 700-MAX7301AAX; Mouser Price/Stock: https://www.mouser.co.uk/ProductDetail/Maxim-Integrated/MAX7301AAX%2b?qs=1THa7WoU59GCrDsJuUsodQ%3D%3D
footprint SOP80P1030X264-36N
pins: 1 ISET, 2 GND_1, 3 GND_2, 4 DOUT, 5 P8, 6 P12, 7 P9, 8 P13, 9 P10, 10 P14, 11 P11, 12 P15, 13 P16, 14 P17, 15 P18, 16 P19, 17 P20, 18 P21, 19 P22, 20 P23, 21 P24, 22 P25, 23 P26, 24 P27, 25 P28, 26 P7, 27 P29, 28 P6, 29 P30, 30 P5, 31 P31, 32 P4, 33 SCLK, 34 DIN, 35 ~{CS}, 36 V+

## MAX7420EUA+
designator DA?
pins: 1 Com, 2 In, 3 Gnd, 4 Vdd, 5 Out, 6 Os, 7 Shdn, 8 Clk

## MAX7456
designator DD?
pins: 1 NC, 2 NC, 3 DVDD, 4 DGND, 5 CLKIN, 6 XFB, 7 CLKOUT, 8 ~{CS}, 9 SDIN, 10 SCLK, 11 SDOUT, 12 LOS, 13 NC, 14 NC, 15 NC, 16 NC, 17 ~{VSYNC}, 18 ~{HSYNC}, 19 ~{RESET}, 20 AGND, 21 AVDD, 22 VIN, 23 PGND, 24 PVDD, 25 SAG, 26 VOUT, 27 NC, 28 NC, 29 EP

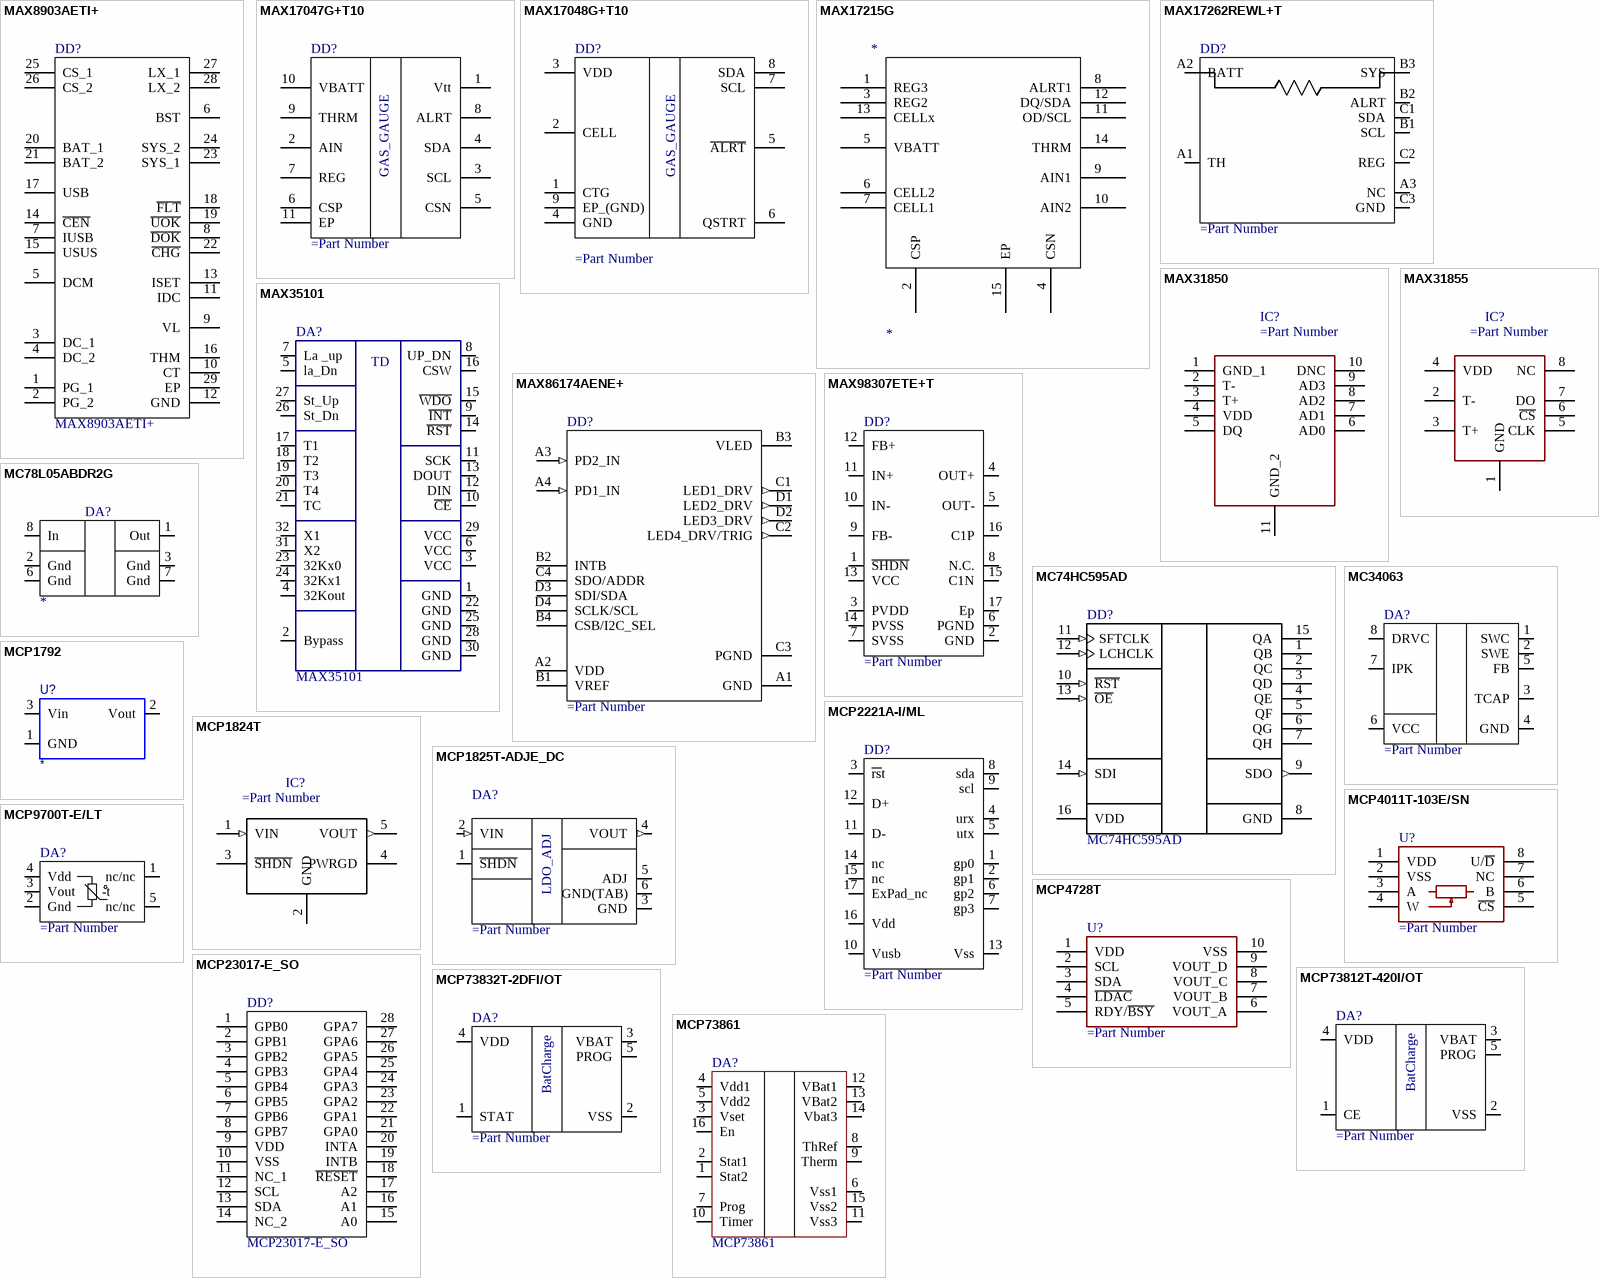
[diagram p15: symbols MAX8903AETI+ to MCP73861]

## MAX8903AETI+
designator DD?
Integrated Circuit; Manufacturer_Name: Maxim Integrated; Datasheet Link: https://componentsearchengine.com/Datasheets/2/MAX8903AETI+.pdf; Height: 0.8mm; Manufacturer_Part_Number: MAX8903AETI+; Mouser Part Number: 700-MAX8903AETI; Mouser Price/Stock: https://www.mouser.co.uk/ProductDetail/Maxim-Integrated/MAX8903AETI%2b?qs=Mqkh4jHMT8xkuEtUKQzR8g%3D%3D
footprint QFN40P400X400X80-29N
pins: 1 PG_1, 2 PG_2, 3 DC_1, 4 DC_2, 5 DCM, 6 BST, 7 IUSB, 8 ~{DOK}, 9 VL, 10 CT, 11 IDC, 12 GND, 13 ISET, 14 ~{CEN}, 15 USUS, 16 THM, 17 USB, 18 ~{FLT}, 19 ~{UOK}, 20 BAT_1, 21 BAT_2, 22 ~{CHG}, 23 SYS_1, 24 SYS_2, 25 CS_1, 26 CS_2, 27 LX_1, 28 LX_2, 29 EP

## MAX17047G+T10
designator DD?
pins: 1 Vtt, 2 AIN, 3 SCL, 4 SDA, 5 CSN, 6 CSP, 7 REG, 8 ALRT, 9 THRM, 10 VBATT, 11 EP
text: GAS_GAUGE

## MAX17048G+T10
designator DD?
Integrated Circuit; Manufacturer_Name: Analog Devices; Manufacturer_Part_Number: MAX17048G+T10; Datasheet Link: https://datasheets.maximintegrated.com/en/ds/MAX17048-MAX17049.pdf; Height: 0.8mm; Mouser Part Number: 700-MAX17048G+T10; Mouser Price/Stock: https://www.mouser.co.uk/ProductDetail/Analog-Devices-Maxim-Integrated/MAX17048G%2bT10?qs=D7PJwyCwLAoGnnn8jEPRBQ%3D%3D; Arrow Part Number: MAX17048G+T10; Arrow Price/Stock: https://www.arrow.com/en/products/max17048gt10/maxim-integrated?region=nac
footprint SON50P200X200X80-9N-D
pins: 1 CTG, 2 CELL, 3 VDD, 4 GND, 5 ~{ALRT}, 6 QSTRT, 7 SCL, 8 SDA, 9 EP_(GND)
text: GAS_GAUGE

## MAX17215G
designator *
footprint TDFN-15
pins: 1 REG3, 2 CSP, 3 REG2, 4 CSN, 5 VBATT, 6 CELL2, 7 CELL1, 8 ALRT1, 9 AIN1, 10 AIN2, 11 OD/SCL, 12 DQ/SDA, 13 CELLx, 14 THRM, 15 EP

## MAX17262REWL+T
designator DD?
Integrated Circuit; Manufacturer_Name: Analog Devices; Manufacturer_Part_Number: MAX17262REWL+T; Datasheet Link: https://datasheets.maximintegrated.com/en/ds/MAX17262.pdf; Height: 0.69mm; Mouser Part Number: 700-MAX17262REWL+T; Mouser Price/Stock: https://www.mouser.co.uk/ProductDetail/Analog-Devices-Maxim-Integrated/MAX17262REWL%2bT?qs=byeeYqUIh0N%2Fwt%2FPHEGinQ%3D%3D; Arrow Part Number: MAX17262REWL+T; Arrow Price/Stock: https://www.arrow.com/en/products/max17262rewlt/maxim-integrated?region=nac
footprint BGA9C40P3X3_147X145X69
pins: A1 TH, A2 BATT, A3 NC, B1 SCL, B2 ALRT, B3 SYS, C1 SDA, C2 REG, C3 GND

## MAX31850
designator IC?
Integrated Circuit; Manufacturer_Name: Maxim Integrated; Manufacturer_Part_Number: MAX31850KATB+T; Datasheet Link: http://datasheets.maximintegrated.com/en/ds/MAX31850-MAX31851.pdf; Height: 0.8mm; Arrow Part Number: MAX31850KATB+T; Mouser Part Number: 700-MAX31850KATB+T; Mouser Price/Stock: https://www.mouser.com/Search/Refine.aspx?Keyword=700-MAX31850KATB%2BT
footprint SON50P400X300X80-11N
pins: 1 GND_1, 2 T-, 3 T+, 4 VDD, 5 DQ, 6 AD0, 7 AD1, 8 AD2, 9 AD3, 10 DNC, 11 GND_2

## MAX31855
designator IC?
Integrated Circuit; Manufacturer_Name: Maxim Integrated; Manufacturer_Part_Number: MAX31850KATB+T; Datasheet Link: http://datasheets.maximintegrated.com/en/ds/MAX31850-MAX31851.pdf; Height: 0.8mm; Arrow Part Number: MAX31850KATB+T; Mouser Part Number: 700-MAX31850KATB+T; Mouser Price/Stock: https://www.mouser.com/Search/Refine.aspx?Keyword=700-MAX31850KATB%2BT
footprint SON50P400X300X80-11N
pins: 1 GND, 2 T-, 3 T+, 4 VDD, 5 CLK, 6 ~{CS}, 7 DO, 8 NC

## MAX35101
designator DA?
IC TIME-TO-DGTL CONV W/AFE TQFP
pins: 0 EP (power) hidden to GND "Exposed Pad. Connect to GND.", 1 GND "Device Ground", 2 Bypass "Connect this pin to ground with a capacitor (100nF) to provide stability for the on-board lowdropout", 3 VCC "Main Supply. Typically sourced from a single lithium cell.", 4 32Kout "CMOS Output. Repeats the 32kHz crystal oscillator frequency.", 5 la_Dn "CMOS Pulse Output Transmission in Downstream Direction of Water Flow", 6 VCC "Main Supply. Typically sourced from a single lithium cell.", 7 La _up "CMOS Pulse Output Transmission in Upstream Direction of Water Flow", 8 UP_DN "CMOS Output. Indicates the direction (upstream or downstream) of which the pulse launcher is", 9 ~{INT} "Active-Low Open-Drain Interrupt Output. The pin is driven low when the device requires service", 10 ~{CE} "Active-Low CMOS Digital Input. Serial peripheral interface chip enable input.", 11 SCK "CMOS Digital Input. Serial peripheral interface clock input.", 12 DIN "CMOS Digital Input. Serial peripheral interface data input.", 13 DOUT "CMOS Output. Serial peripheral interface data output.", 14 ~{RST} "Active-Low CMOS Digital Reset Input", 15 ~{WDO} "Active-Low Open-Drain Watchdog Output", 16 CSW "CMOS Digital Input. Case Switch. Active-high tamper detect input.", 17 T1 "Open-Drain Probe 1 Temperature Measurement", 18 T2 "Open-Drain Probe 2 Temperature Measurement", 19 T3 "Open-Drain Probe 3 Temperature Measurement", 20 T4 "Open-Drain Probe 4 Temperature Measurement", 21 TC "Input/Output Temperature Measurement Capacitor Connection", 22 GND "Device Ground", 23 32Kx0 "Connections for 32.768kHz Quartz Crystal. An external CMOS 32.768kHz oscillator can also", 24 32Kx1 "Connections for 32.768kHz Quartz Crystal. An external CMOS 32.768kHz oscillator can also", 25 GND "Device Ground", 26 St_Dn "Downstream STOP Analog Input. Used for the signal that is received from the downstream", 27 St_Up "Upstream STOP Analog Input. Used for the signal that is received from the upstream", 28 GND "Device Ground", 29 VCC "Main Supply. Typically sourced from a single lithium cell.", 30 GND "Device Ground", 31 X2 "Connections for 4MHz Quartz Crystal. A ceramic resonator can also be used.", 32 X1 "Connections for 4MHz Quartz Crystal. A ceramic resonator can also be used."
text: TD

## MAX86174AENE+
designator DD?
pins: A1 GND (power), A2 VDD (power), A3 PD2_IN (in), A4 PD1_IN (in), B1 VREF, B2 INTB, B3 VLED, B4 CSB/I2C_SEL, C1 LED1_DRV (out), C2 LED4_DRV/TRIG (out), C3 PGND, C4 SDO/ADDR, D1 LED2_DRV (out), D2 LED3_DRV (out), D3 SDI/SDA, D4 SCLK/SCL

## MAX98307ETE+T
designator DD?
pins: 1 ~{SHDN}, 2 GND, 3 PVDD, 4 OUT+, 5 OUT-, 6 PGND, 7 SVSS, 8 N.C., 9 FB-, 10 IN-, 11 IN+, 12 FB+, 13 VCC, 14 PVSS, 15 C1N, 16 C1P, 17 Ep

## MC74HC595AD
designator DD?
8-Bit Serial-Input/Serial or Prallel-Output Shift Register with Latched 3-State Outputs; Published: 15-Apr-2002; LatestRevisionDate: 13-Apr-2006; LatestRevisionNote: IPC-7351 Footprint Added.; DatasheetVersion: Mar-2000; PackageVersion: Oct-1999; PackageReference: 751B-05; Publisher: Altium Limited; PackageDescription: 16-Pin Small Outline Integrated Circuit 1.27 mm Pitch; Code_JEDEC: MS-012-AC; Code_IPC: SOIC127P600-16; ComponentLink1Description: Manufacturer Link; ComponentLink1URL: http://www.onsemi.com/; ComponentLink2Description: Datasheet; ComponentLink2URL: http://www.onsemi.com/pub/Collateral/MC74HC595A-D.PDF
footprint 751B-05_N (SOIC, 16-Leads, Body 9.9x3.9mm, Pitch 1.27mm, IPC Medium Density)
footprint 751B-05_L (SOIC, 16-Leads, Body 9.9x3.9mm, Pitch 1.27mm, IPC High Density)
footprint 751B-05_M (SOIC, 16-Leads, Body 9.9x3.9mm, Pitch 1.27mm, IPC Low Density)
signal-integrity model MC74HC595AD ([Unknown model type, plugin missing])
pins: 1 QB (hiz), 2 QC (hiz), 3 QD (hiz), 4 QE (hiz), 5 QF (hiz), 6 QG (hiz), 7 QH (hiz), 8 GND (power), 9 SDO (out), 10 ~{RST} (in), 11 SFTCLK (in), 12 LCHCLK (in), 13 ~{OE} (in), 14 SDI (in), 15 QA (hiz), 16 VDD (power)

## MC78L05ABDR2G
designator DA?
pins: 1 Out, 2 Gnd, 3 Gnd, 6 Gnd, 7 Gnd, 8 In

## MC34063
designator DA?
DC-to-DC Converter Control Circuit; Published: 17-Jul-2002; LatestRevisionDate: 13-Apr-2006; LatestRevisionNote: IPC-7351 Footprint Added.; DatasheetVersion: 1988; PackageReference: 751-02; Publisher: Altium Limited; PackageDescription: 8-Pin Small Outline Integrated Circuit 1.27 mm Pitch; Code_JEDEC: MS-012-AA; Code_IPC: SOIC127P600-8; ComponentLink1Description: Manufacturer Link; ComponentLink1URL: http://www.onsemi.com/site/products/taxonomy/0,4438,503,00.html; ComponentLink2Description: Datasheet; ComponentLink2URL: http://www.onsemi.com/pub/Collateral/MC34063A-D.PDF
pins: 1 SWC (oc), 2 SWE (oe), 3 TCAP, 4 GND (power), 5 FB, 6 VCC (power), 7 IPK, 8 DRVC (oc)

## MCP1792
designator U?
pins: 1 GND, 2 Vout, 3 Vin

## MCP1824T
designator IC?
Integrated Circuit; Manufacturer_Name: Microchip; Manufacturer_Part_Number: MCP1824T-3302E/OT; Datasheet Link: http://docs-emea.rs-online.com/webdocs/0d10/0900766b80d10fb9.pdf; Height: 1.45mm; Arrow Part Number: MCP1824T-3302E/OT; Arrow Price/Stock: https://www.arrow.com/en/products/mcp1824t-3302eot/microchip-technology; Mouser Part Number: 579-MCP1824T-3302EOT; Mouser Price/Stock: https://www.mouser.co.uk/ProductDetail/Microchip-Technology/MCP1824T-3302E-OT?qs=gsqZ4L1luKpf30CVQFzEaA%3D%3D
footprint SOT95P270X145-5N
pins: 1 VIN (in), 2 GND (power), 3 ~{SHDN}, 4 PWRGD, 5 VOUT (out)

## MCP1825T-ADJE_DC
designator DA?
Integrated Circuit; Manufacturer_Name: Microchip; Manufacturer_Part_Number: MCP1825T-ADJE/DC; Datasheet Link: https://datasheet.datasheetarchive.com/originals/distributors/SFDatasheet-4/sf-00090042.pdf; Height: 1.8mm; Mouser Part Number: 579-MCP1825T-ADJE/DC; Mouser Price/Stock: https://www.mouser.co.uk/ProductDetail/Microchip-Technology-Atmel/MCP1825T-ADJE-DC?qs=gsqZ4L1luKqIf%252BuyeXZvkg%3D%3D; Arrow Part Number: MCP1825T-ADJE/DC; Arrow Price/Stock: https://www.arrow.com/en/products/mcp1825t-adjedc/microchip-technology?region=nac
footprint SOT127P706X180-6N
pins: 1 ~{SHDN}, 2 VIN (in), 3 GND (power), 4 VOUT (out), 5 ADJ, 6 GND(TAB) (power)
text: LDO_ADJ

## MCP2221A-I/ML
designator DD?
pins: 1 gp0, 2 gp1, 3 ~{rs}t, 4 urx, 5 utx, 6 gp2, 7 gp3, 8 sda, 9 scl, 10 Vusb, 11 D-, 12 D+, 13 Vss, 14 nc, 15 nc, 16 Vdd, 17 ExPad_nc

## MCP4011T-103E/SN
designator U?
pins: 1 VDD, 2 VSS, 3 A, 4 W, 5 ~{CS}, 6 B, 7 NC, 8 U/~{D}

## MCP4728T
designator U?
pins: 1 VDD, 2 SCL, 3 SDA, 4 ~{LDAC}, 5 RDY/~{BSY}, 6 VOUT_A, 7 VOUT_B, 8 VOUT_C, 9 VOUT_D, 10 VSS

## MCP9700T-E/LT
designator DA?
pins: 1 nc/nc, 2 Gnd, 3 Vout, 4 Vdd, 5 nc/nc
text: -t

## MCP23017-E_SO
designator DD?
Integrated Circuit; Manufacturer_Name: Microchip; Manufacturer_Part_Number: MCP23017-E/SO; Datasheet Link: http://docs-emea.rs-online.com/webdocs/0a78/0900766b80a784c3.pdf; Height: 2.65mm; Arrow Part Number: MCP23017-E/SO; Arrow Price/Stock: https://www.arrow.com/en/products/mcp23017-eso/microchip-technology; Mouser Part Number: 579-MCP23017-E/SO; Mouser Price/Stock: https://www.mouser.co.uk/ProductDetail/Microchip-Technology/MCP23017-E-SO?qs=usxtMOJb1Rz8hft7vV7YMQ%3D%3D
footprint SOIC127P1030X265-28N
pins: 1 GPB0, 2 GPB1, 3 GPB2, 4 GPB3, 5 GPB4, 6 GPB5, 7 GPB6, 8 GPB7, 9 VDD, 10 VSS, 11 NC_1, 12 SCL, 13 SDA, 14 NC_2, 15 A0, 16 A1, 17 A2, 18 ~{RESET}, 19 INTB, 20 INTA, 21 GPA0, 22 GPA1, 23 GPA2, 24 GPA3, 25 GPA4, 26 GPA5, 27 GPA6, 28 GPA7

## MCP73812T-420I/OT
designator DA?
pins: 1 CE, 2 VSS, 3 VBAT, 4 VDD, 5 PROG
text: BatCharge

## MCP73832T-2DFI/OT
designator DA?
pins: 1 STAT, 2 VSS, 3 VBAT, 4 VDD, 5 PROG
text: BatCharge

## MCP73861
designator DA?
Li-Ion/Li-Polymer  Charge
pins: 1 Stat2, 2 Stat1, 3 Vset, 4 Vdd1, 5 Vdd2, 6 Vss1, 7 Prog, 8 ThRef, 9 Therm, 10 Timer, 11 Vss3, 12 VBat1, 13 VBat2, 14 Vbat3, 15 Vss2, 16 En

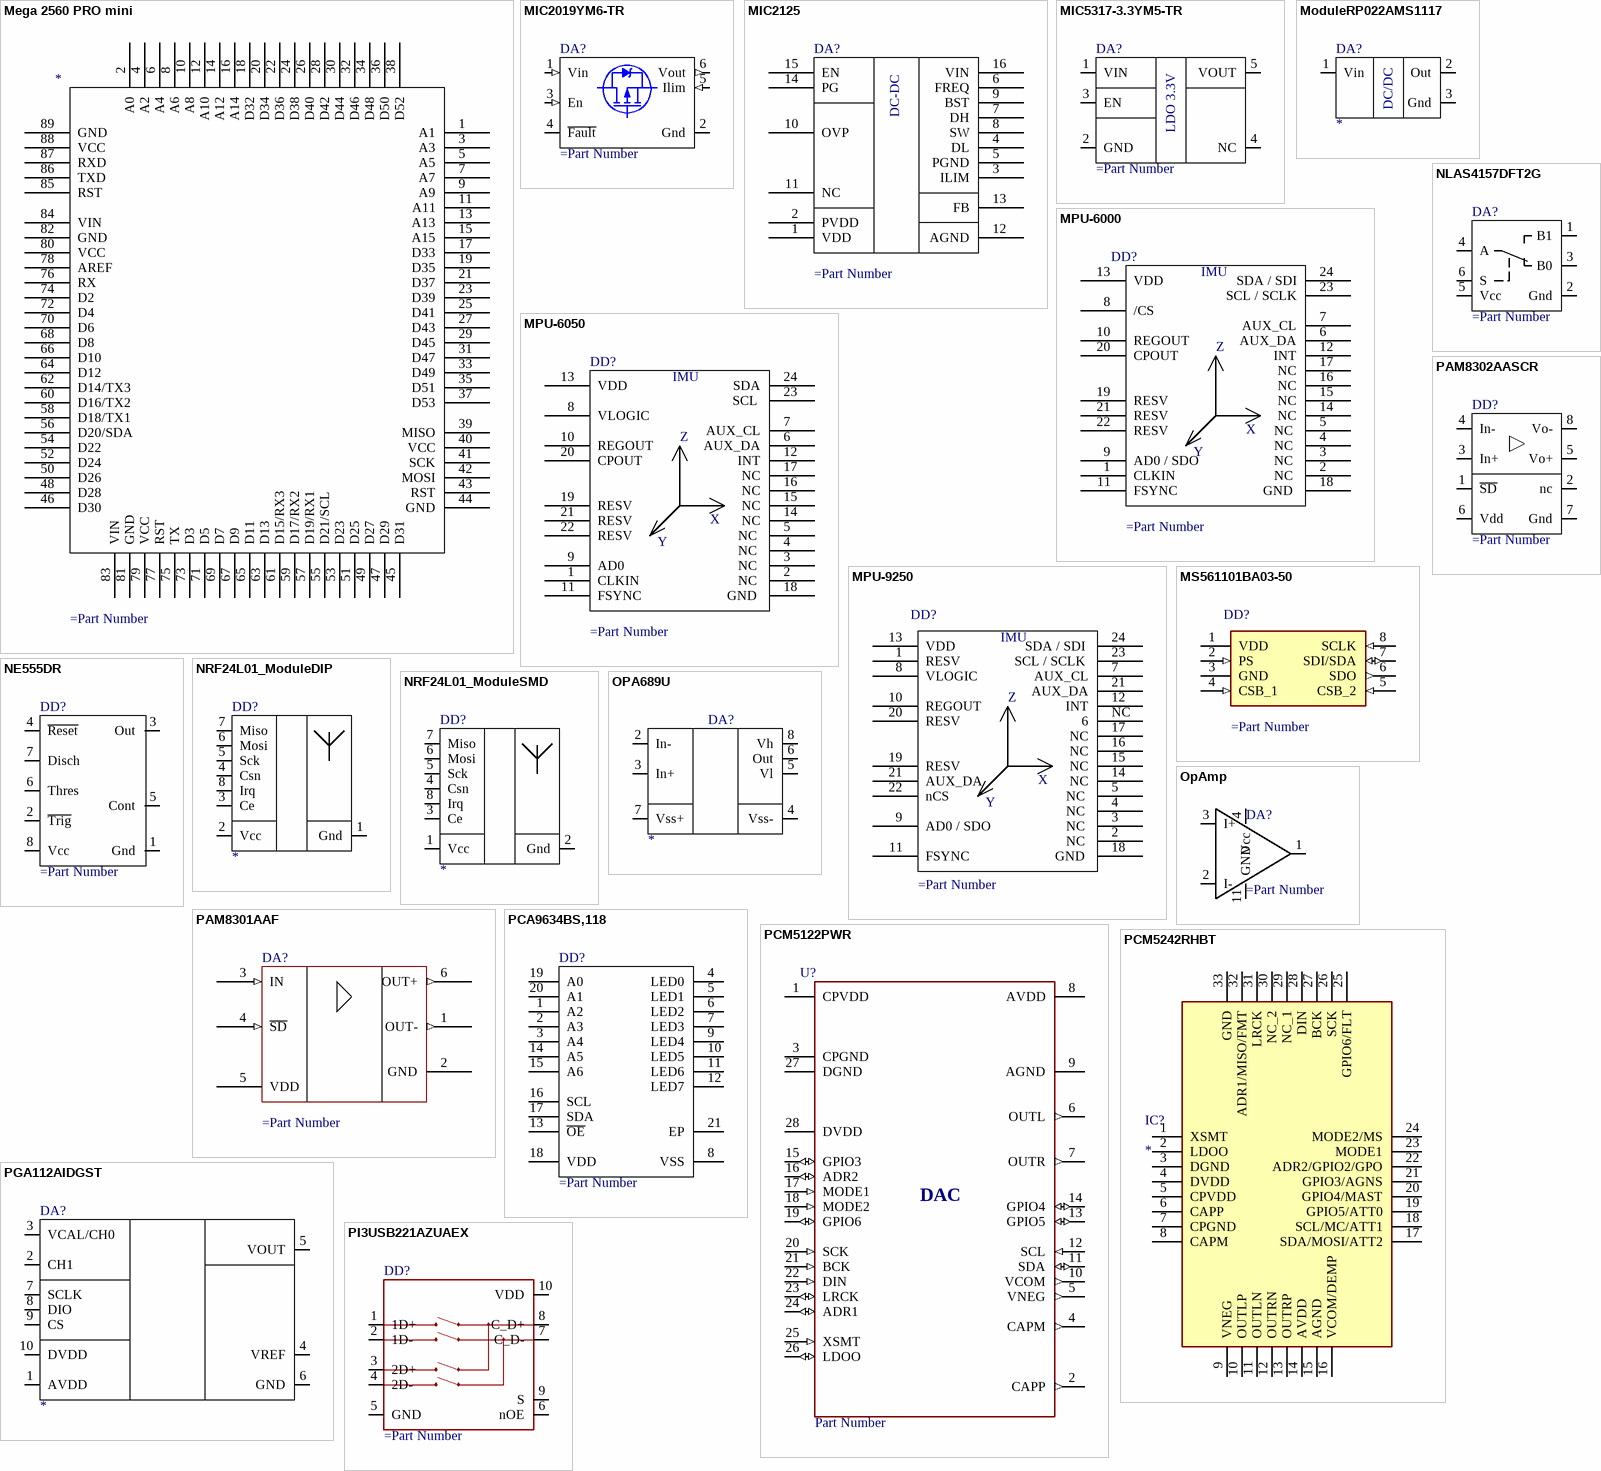
[diagram p16: symbols Mega 2560 PRO mini to PI3USB221AZUAEX]

## Mega 2560 PRO mini
designator =Part Number
footprint MEGA2560 pro mini (Connector; Header; 19x2 Position)
pins: 1 A1, 2 A0, 3 A3, 4 A2, 5 A5, 6 A4, 7 A7, 8 A6, 9 A9, 10 A8, 11 A11, 12 A10, 13 A13, 14 A12, 15 A15, 16 A14, 17 D33, 18 D32, 19 D35, 20 D34, 21 D37, 22 D36, 23 D39, 24 D38, 25 D41, 26 D40, 27 D43, 28 D42, 29 D45, 30 D44, 31 D47, 32 D46, 33 D49, 34 D48, 35 D51, 36 D50, 37 D53, 38 D52, 39 MISO, 40 VCC, 41 SCK, 42 MOSI, 43 RST, 44 GND, 45 D31, 46 D30, 47 D29, 48 D28, 49 D27, 50 D26, 51 D25, 52 D24, 53 D23, 54 D22, 55 D21/SCL, 56 D20/SDA, 57 D19/RX1, 58 D18/TX1, 59 D17/RX2, 60 D16/TX2, 61 D15/RX3, 62 D14/TX3, 63 D13, 64 D12, 65 D11, 66 D10, 67 D9, 68 D8, 69 D7, 70 D6, 71 D5, 72 D4, 73 D3, 74 D2, 75 TX, 76 RX, 77 RST, 78 AREF, 79 VCC, 80 VCC, 81 GND, 82 GND, 83 VIN, 84 VIN, 85 RST, 86 TXD, 87 RXD, 88 VCC, 89 GND

## MIC2019YM6-TR
designator DA?
pins: 1 Vin (in), 2 Gnd (power), 3 En (in), 4 ~{Fault} (oc), 5 Ilim (in), 6 Vout (out)

## MIC2125
designator DA?
pins: 1 VDD, 2 PVDD, 3 ILIM, 4 DL, 5 PGND, 6 FREQ, 7 DH, 8 SW, 9 BST, 10 OVP, 11 NC, 12 AGND, 13 FB, 14 PG, 15 EN, 16 VIN
text: DC-DC

## MIC5317-3.3YM5-TR
designator DA?
pins: 1 VIN, 2 GND, 3 EN, 4 NC, 5 VOUT
text: LDO 3.3V

## ModuleRP022AMS1117
designator DA?
pins: 1 Vin, 2 Out, 3 Gnd
text: DC/DC

## MPU-6000
designator DD?
pins: 1 CLKIN , 2 NC , 3 NC , 4 NC , 5 NC , 6 AUX_DA, 7 AUX_CL, 8 /CS, 9 AD0 / SDO, 10 REGOUT, 11 FSYNC , 12 INT, 13 VDD, 14 NC, 15 NC, 16 NC, 17 NC, 18 GND , 19 RESV, 20 CPOUT, 21 RESV, 22 RESV, 23 SCL / SCLK, 24 SDA / SDI
text: IMU; Z; X; Y

## MPU-6050
designator DD?
pins: 1 CLKIN , 2 NC , 3 NC , 4 NC , 5 NC , 6 AUX_DA, 7 AUX_CL, 8 VLOGIC, 9 AD0, 10 REGOUT, 11 FSYNC , 12 INT, 13 VDD, 14 NC, 15 NC, 16 NC, 17 NC, 18 GND , 19 RESV, 20 CPOUT, 21 RESV, 22 RESV, 23 SCL , 24 SDA
text: IMU; Z; X; Y

## MPU-9250
designator DD?
pins: 1 RESV, 2 NC , 3 NC , 4 NC , 5 NC , 7 AUX_CL, 8 VLOGIC, 9 AD0 / SDO, 10 REGOUT, 11 FSYNC , 12 INT, 13 VDD, 14 NC, 15 NC, 16 NC, 17 NC, 18 GND , 19 RESV, 20 RESV, 21 AUX_DA, 21 AUX_DA, 22 nCS, 23 SCL / SCLK , 24 SDA / SDI , NC 6
text: IMU; Z; X; Y

## MS561101BA03-50
designator DD?
pins: 1 VDD (power), 2 PS (in), 3 GND (power), 4 CSB_1 (in), 5 CSB_2 (in), 6 SDO (out), 7 SDI/SDA (io), 8 SCLK (in)

## NE555DR
designator DD?
pins: 1 Gnd, 2 ~{Trig}, 3 Out, 4 ~{Reset}, 5 Cont, 6 Thres, 7 Disch, 8 Vcc

## NLAS4157DFT2G
designator DA?
pins: 1 B1, 2 Gnd, 3 B0, 4 A, 5 Vcc, 6 S

## NRF24L01_ModuleDIP
designator DD?
pins: 1 Gnd, 2 Vcc, 3 Ce, 4 Csn, 5 Sck, 6 Mosi, 7 Miso, 8 Irq

## NRF24L01_ModuleSMD
designator DD?
pins: 1 Vcc, 2 Gnd, 3 Ce, 4 Csn, 5 Sck, 6 Mosi, 7 Miso, 8 Irq

## OPA689U
designator DA?
pins: 2 In-, 3 In+, 4 Vss-, 5 Vl, 6 Out, 7 Vss+, 8 Vh

## OpAmp
designator DA?
pins: 1 O, 2 I-, 3 I+, 4 Vcc, 11 GND

## PAM8301AAF
designator DA?
pins: 1 OUT- (out), 2 GND, 3 IN (in), 4 ~{SD} (in), 5 VDD, 6 OUT+ (out)

## PAM8302AASCR
designator DD?
pins: 1 ~{SD}, 2 nc, 3 In+, 4 In-, 5 Vo+, 6 Vdd, 7 Gnd, 8 Vo-

## PCA9634BS,118
designator DD?
pins: 1 A2, 2 A3, 3 A4, 4 LED0, 5 LED1, 6 LED2, 7 LED3, 8 VSS, 9 LED4, 10 LED5, 11 LED6, 12 LED7, 13 ~{OE}, 14 A5, 15 A6, 16 SCL, 17 SDA, 18 VDD, 19 A0, 20 A1, 21 EP

## PCM5122PWR
designator U?, comment Part Number
2V RMS DIRECTPATH 112dB Audio Stereo DAC with PCM Interface and Fixed Audio Processing 28-TSSOP -25 to 85; MF: Texas Instruments; MP: PCM5122PWR; Purchase-URL: https://pricing.snapeda.com/search/part/PCM5122PWR/?ref=eda; Package: TSSOP-28 Texas Instruments; Value: *; Availability: Good; Price: None; SnapEDA_Link: https://www.snapeda.com/parts/PCM5122PWR/Texas%20Instruments/view-part/563267/?ref=snap; Check_prices: https://www.snapeda.com/parts/PCM5122PWR/Texas%20Instruments/view-part/563267/?ref=eda
footprint SOP65P640X120-28N
pins: 1 CPVDD (power), 2 CAPP (out), 3 CPGND (power), 4 CAPM (out), 5 VNEG (out), 6 OUTL (out), 7 OUTR (out), 8 AVDD (power), 9 AGND (power), 10 VCOM (out), 11 SDA (io), 12 SCL (in), 13 GPIO5 (io), 14 GPIO4 (io), 15 GPIO3 (io), 16 ADR2 (io), 17 MODE1 (in), 18 MODE2 (in), 19 GPIO6 (io), 20 SCK (in), 21 BCK (in), 22 DIN (in), 23 LRCK (io), 24 ADR1 (io), 25 XSMT (in), 26 LDOO (io), 27 DGND (power), 28 DVDD (power)
text: DAC

## PCM5242RHBT
designator IC?
Integrated Circuit; Manufacturer_Name: Texas Instruments; Manufacturer_Part_Number: PCM5242RHBT; Datasheet Link: http://www.mouser.com/ds/2/405/pcm5242-466746.pdf; Height: 1mm; Mouser Part Number: 595-PCM5242RHBT; Mouser Price/Stock: https://www.mouser.co.uk/ProductDetail/Texas-Instruments/PCM5242RHBT?qs=m%2F7bTylgptdKV%252BfgqklZkg%3D%3D; Arrow Part Number: PCM5242RHBT; Arrow Price/Stock: https://www.arrow.com/en/products/pcm5242rhbt/texas-instruments?region=nac
footprint QFN50P500X500X100-33N-D
pins: 1 XSMT, 2 LDOO, 3 DGND, 4 DVDD, 5 CPVDD, 6 CAPP, 7 CPGND, 8 CAPM, 9 VNEG, 10 OUTLP, 11 OUTLN, 12 OUTRN, 13 OUTRP, 14 AVDD, 15 AGND, 16 VCOM/DEMP, 17 SDA/MOSI/ATT2, 18 SCL/MC/ATT1, 19 GPIO5/ATT0, 20 GPIO4/MAST, 21 GPIO3/AGNS, 22 ADR2/GPIO2/GPO, 23 MODE1, 24 MODE2/MS, 25 GPIO6/FLT, 26 SCK, 27 BCK, 28 DIN, 29 NC_1, 30 NC_2, 31 LRCK, 32 ADR1/MISO/FMT, 33 GND

## PGA112AIDGST
designator DA?
pins: 1 AVDD, 2 CH1, 3 VCAL/CH0, 4 VREF, 5 VOUT, 6 GND, 7 SCLK, 8 DIO, 9 CS, 10 DVDD

## PI3USB221AZUAEX
designator DD?
pins: 1 1D+, 2 1D-, 3 2D+, 4 2D-, 5 GND, 6 nOE, 7 C_D-, 8 C_D+, 9 S, 10 VDD

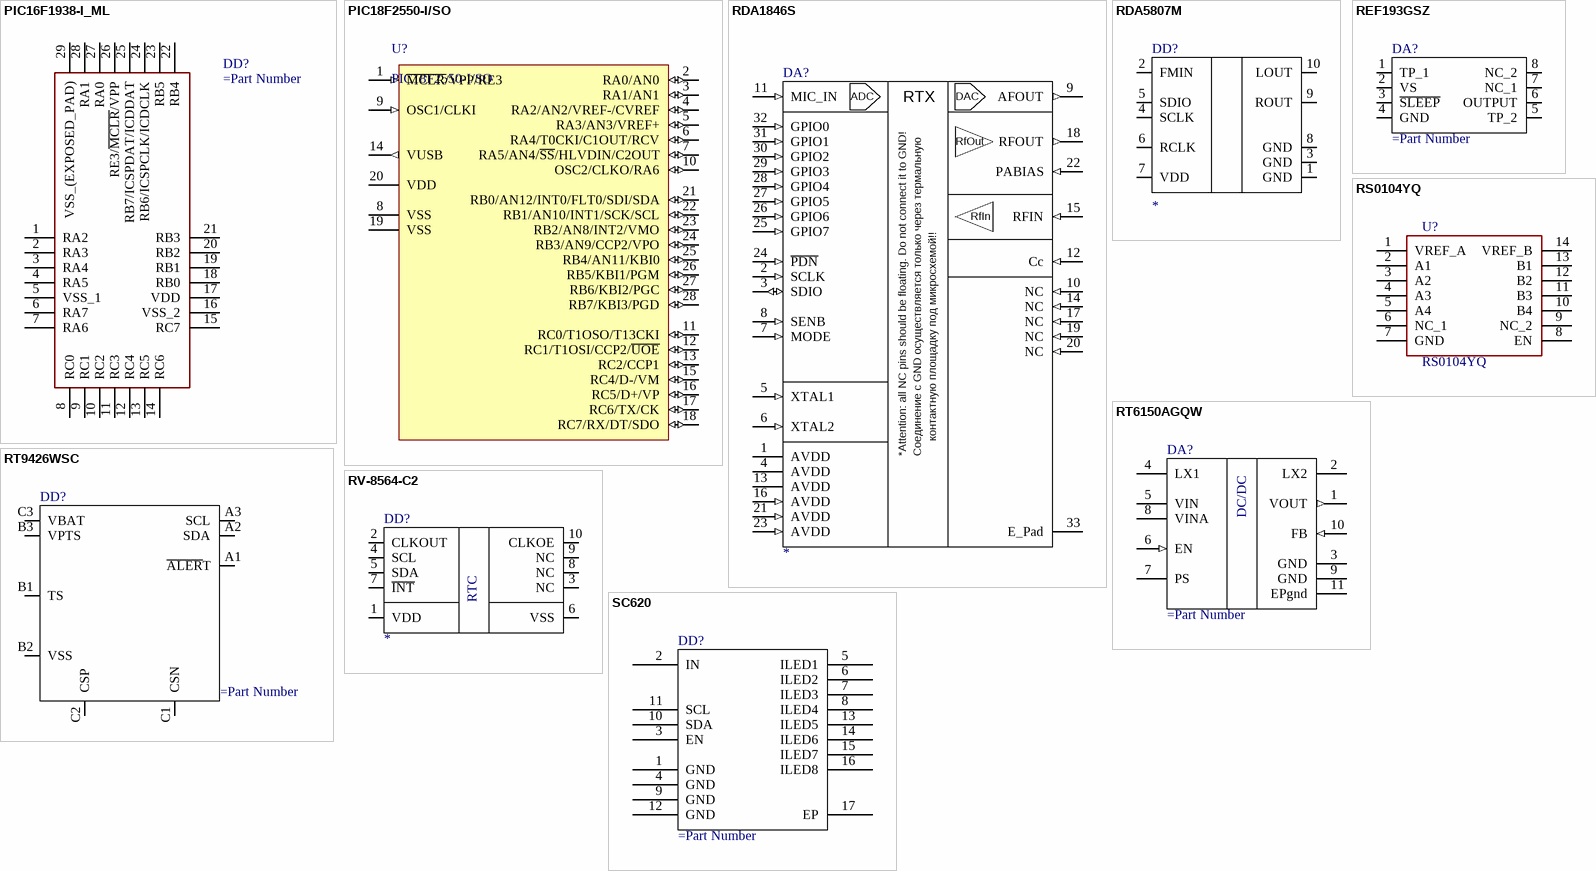
[diagram p17: symbols PIC16F1938-I_ML to SC620]

## PIC16F1938-I_ML
designator DD?
Manufacturer_Name: Microchip; Manufacturer_Part_Number: PIC16F1938-I/ML; Datasheet Link: https://datasheet.datasheetarchive.com/originals/distributors/Datasheets-DGA25/1725257.pdf; Height: 1mm; Mouser Part Number: 579-PIC16F1938-I/ML; Mouser Price/Stock: https://www.mouser.co.uk/ProductDetail/Microchip-Technology/PIC16F1938-I-ML?qs=DAV8Y8VhPTIljyPb8voELg%3D%3D; Arrow Part Number: PIC16F1938-I/ML; Arrow Price/Stock: https://www.arrow.com/en/products/pic16f1938-iml/microchip-technology
footprint QFN65P600X600X100-29N-D
pins: 1 RA2, 2 RA3, 3 RA4, 4 RA5, 5 VSS_1, 6 RA7, 7 RA6, 8 RC0, 9 RC1, 10 RC2, 11 RC3, 12 RC4, 13 RC5, 14 RC6, 15 RC7, 16 VSS_2, 17 VDD, 18 RB0, 19 RB1, 20 RB2, 21 RB3, 22 RB4, 23 RB5, 24 RB6/ICSPCLK/ICDCLK, 25 RB7/ICSPDAT/ICDDAT, 26 RE3/~{MCLR}/VPP, 27 RA0, 28 RA1, 29 VSS_(EXPOSED_PAD)

## PIC18F2550-I/SO
designator U?
High Performance, Enhanced Flash, USB Microcontroller with nanoWatt Technology, 32K Flash, 28-Pin SOIC, Industrial Temperature Range; Published: 29-Jan-2009; LatestRevisionDate: 02-Dec-2009; LatestRevisionNote: Updated to datasheet revision E, Aug-2008; DatasheetVersion: revE, Aug-2008; PackageVersion: revBB, Aug-2009; PackageReference: SOIC-SO28; Publisher: Altium Limited; PackageDescription: 28-Lead Plastic Small Outline (SO) - Wide 7.50mm Body [SOIC]; Supplier 1: Digi-Key; Supplier Part Number 1: PIC18F2550-I/SO-ND; Supplier 2: Farnell; Supplier Part Number 2: 1660053; Supplier 3: Farnell; Supplier Part Number 3: 9321268; Code_JEDEC: MS-013; ComponentLink1Description: Datasheet; ComponentLink1URL: http://ww1.microchip.com/downloads/en/DeviceDoc/39632e.pdf; ComponentLink2Description: Packaging Specification; ComponentLink2URL: http://www.microchip.com/stellent/groups/techpub_sg/documents/packagingspec/en012702.pdf; ComponentLink3Description: Microchip.com Home; ComponentLink3URL: http://www.microchip.com/
pins: 1 ~{MCLR}/VPP/RE3 (in), 2 RA0/AN0 (io), 3 RA1/AN1 (io), 4 RA2/AN2/VREF-/CVREF (io), 5 RA3/AN3/VREF+ (io), 6 RA4/T0CKI/C1OUT/RCV (io), 7 RA5/AN4/~{SS}/HLVDIN/C2OUT (io), 8 VSS (power), 9 OSC1/CLKI (in), 10 OSC2/CLKO/RA6 (io), 11 RC0/T1OSO/T13CKI (io), 12 RC1/T1OSI/CCP2/~{UOE} (io), 13 RC2/CCP1 (io), 14 VUSB (out), 15 RC4/D-/VM (io), 16 RC5/D+/VP (io), 17 RC6/TX/CK (io), 18 RC7/RX/DT/SDO (io), 19 VSS (power), 20 VDD (power), 21 RB0/AN12/INT0/FLT0/SDI/SDA (io), 22 RB1/AN10/INT1/SCK/SCL (io), 23 RB2/AN8/INT2/VMO (io), 24 RB3/AN9/CCP2/VPO (io), 25 RB4/AN11/KBI0 (io), 26 RB5/KBI1/PGM (io), 27 RB6/KBI2/PGC (io), 28 RB7/KBI3/PGD (io)